# Altium schematic symbol library ebf_mp157 s1 dev board_20210223_原理图封装_AD格式.SCHLIB: 154 symbols (part 1 of 2)
Pins are listed as number, name and electrical type; pins without a type are passive.

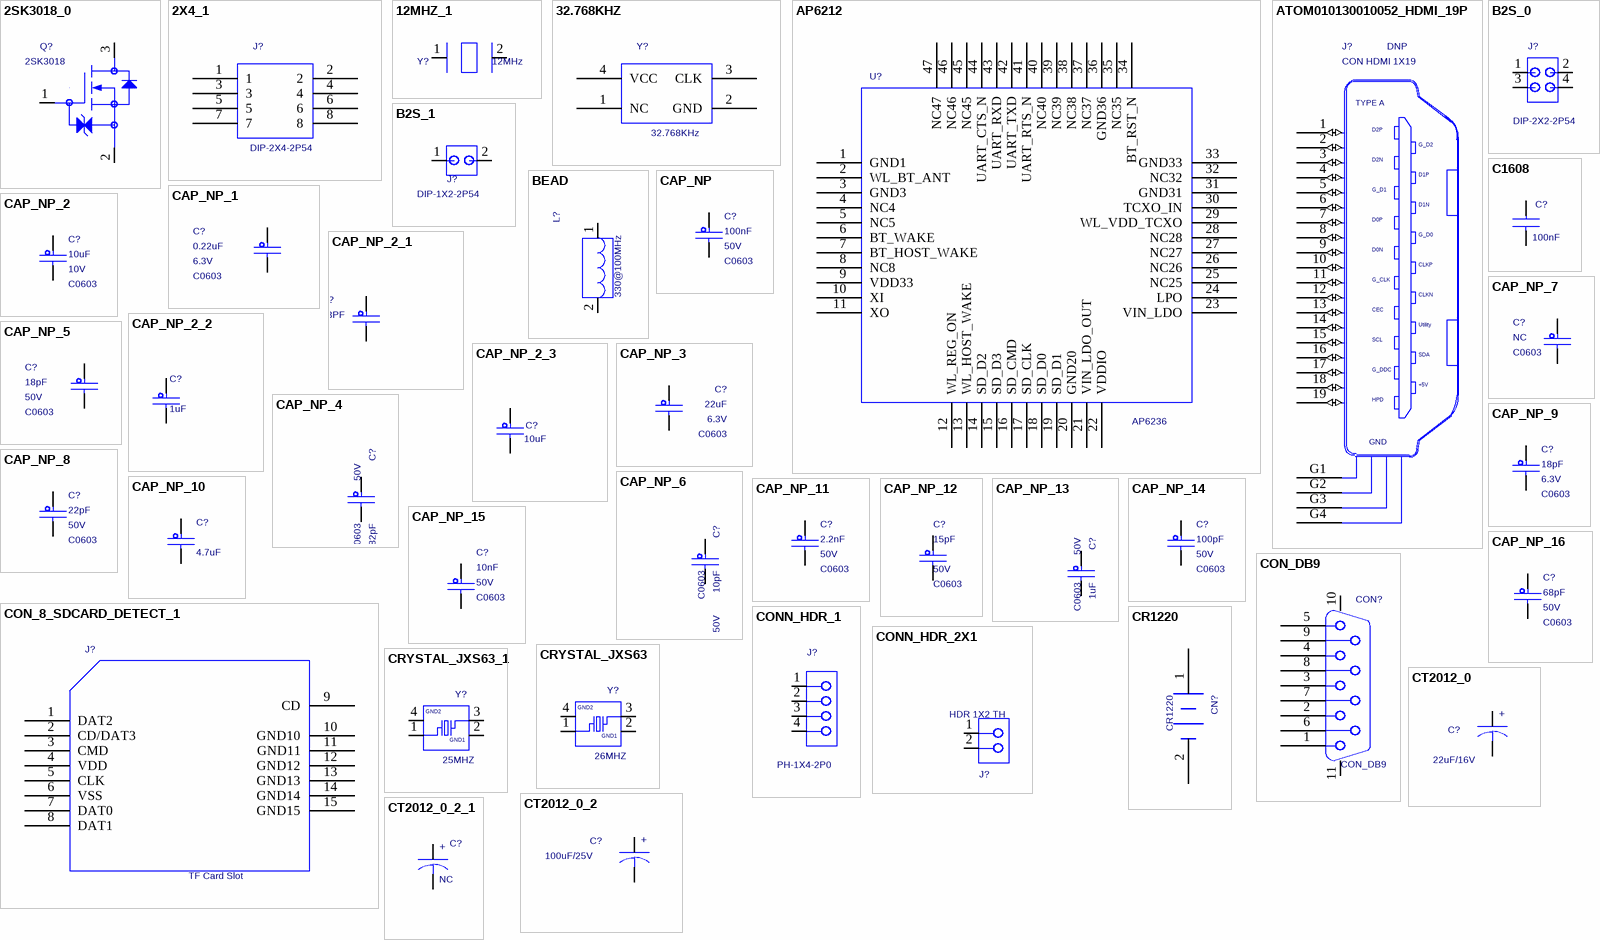
[diagram p0: symbols 2SK3018_0 to CT2012_0_2_1]

## 2SK3018_0
designator Q?  value 2SK3018  (hidden comment: 2SK3018_0)
TRANS MOSFET N-CH 30V .1A SOT-323; PCB DECAL: SOT23; AGILE_PN: 480-75317; MFG_NAME01: ROHM; MFG_PN01: 2SK3018T106; CAD_APPROVED: Yes; Source_Path: H:\NXP_RT1050\SCH\CORE_SCH\IMXRT1052_180113.DSN; CLASS: IC; ROHS: Yes; HEIGHT: 0.9MM
footprint SOT23
pins: 1 GATE, 2 SOURCE, 3 DRAIN

## 2X4_1
designator J?  value DIP-2X4-2P54  (hidden comment: 2X4_1)
Source_Path: D:\NXP_RT1050\RT1050_MB_PRO\SCH\IMXRT1052_MB_PRO_0321.DSN; PCB DECAL: DIP-2X4-2P54
footprint DIP-2X4-2P54
pins: 1, 2, 3, 4, 5, 6, 7, 8

## 12MHZ_1
designator Y?  value 12MHz  (hidden comment: 12MHZ_1)
PCB DECAL: XTAL-DIP; Source_Path: H:\NXP_RT1050\SCH\IMXRT1052_MB.DSN
footprint XTAL-DIP
pins: 1, 2

## 32.768KHZ
designator Y?
PCB DECAL: 3225; Source_Path: F:\NXP\I.MX6UL\SCH\IMX6UL.OLB; Value: 32.768KHz
footprint 3225
pins: 1 NC, 2 GND, 3 CLK, 4 VCC

## AP6212
designator U?  value AP6236  (hidden comment: AP6212)
Source_Path: F:\NXP\I.MX6UL\SCH\IMX6UL.OLB; PCB DECAL: AP6212
footprint AP6212
pins: 1 GND1, 2 WL_BT_ANT, 3 GND3, 4 NC4, 5 NC5, 6 BT_WAKE, 7 BT_HOST_WAKE, 8 NC8, 9 VDD33, 10 XI, 11 XO, 12 WL_REG_ON, 13 WL_HOST_WAKE, 14 SD_D2, 15 SD_D3, 16 SD_CMD, 17 SD_CLK, 18 SD_D0, 19 SD_D1, 20 GND20, 21 VIN_LDO_OUT, 22 VDDIO, 23 VIN_LDO, 24 LPO, 25 NC25, 26 NC26, 27 NC27, 28 NC28, 29 WL_VDD_TCXO, 30 TCXO_IN, 31 GND31, 32 NC32, 33 GND33, 34 BT_RST_N, 35 NC35, 36 GND36, 37 NC37, 38 NC38, 39 NC39, 40 NC40, 41 UART_RTS_N, 42 UART_TXD, 43 UART_RXD, 44 UART_CTS_N, 45 NC45, 46 NC46, 47 NC47

## ATOM010130010052_HDMI_19P
designator J?  value CON HDMI 1X19  ASSY_OPT: DNP  (hidden comment: ATOM010130010052_HDMI_19P)
CON 1X19 HDMI SMT 0.5MM 249H AU --; PCB DECAL: CON_RA_HDMI_19P_0P5_SM; AGILE_PN: 211-79674; MFG_NAME01: SHENZHEN ATOM TECHNOLOGY CO.,LTD; MFG_PN01: HD119F-3A04202; CAD_APPROVED: Yes; Source_Path: Q:\ORCADCIS\SYMBOLS\FCL_CONNECTOR.OLB; VPN: 1166-2C105-211; Vendor: Comtek; OriginalSymbolOrigin: (-200,650); CLASS: IO; ROHS: Yes; HEIGHT: 6.33MM
footprint CON_RA_HDMI_19P_0P5_SM
pins: 1 D2+ (io), 2 D2GND (io), 3 D2- (io), 4 D1+ (io), 5 D1GND (io), 6 D1- (io), 7 D0+ (io), 8 D0GND (io), 9 D0- (io), 10 CK+ (io), 11 CKGND (io), 12 CK- (io), 13 CEC (io), 14 UTILITY (io), 15 SCL (io), 16 SDA (io), 17 DDCGND (io), 18 +5V (io), 19 HPD (io), G1 GND1 (power), G2 GND2 (power), G3 GND3 (power), G4 GND4 (power)
text: TYPE A; D2P; G_D2; D2N; D1P; G_D1; D1N; D0P; G_D0; D0N; CLKP; G_CLK; CLKN; Utility; G_DDC; GND

## B2S_0
designator J?  value DIP-2X2-2P54  (hidden comment: B2S_0)
Source_Path: E:\20200901_FPGA_A7\DEV\VERSION7\EBF_XC7A35T B1 DEV BOARD_20201024001.DSN; PCB DECAL: DIP-2X2-2P54
footprint DIP-2X2-2P54
pins: 1, 2, 3, 4

## B2S_1
designator J?  value DIP-1X2-2P54  (hidden comment: B2S_1)
PCB DECAL: HDR102; Source_Path: F:\STM32\F429\SCH\V4\STM32F429_F767_H743_MB_1129.DSN
footprint HDR102
pins: 1, 2

## BEAD
designator L?  value 330@100MHz  (hidden comment: BEAD)
IND FER BEAD 330OHM@100MHZ 1.7A 0603; PART_TYPE: FERRITE\BEAD; PCB DECAL: L0603; TOL: 25%; CAD_APPROVED: Yes; MFG_PN01: MPZ1608S331A; MFG_NAME01: TDK; AGILE_PN: 180-78156; Source_Path: Q:\ORCADCIS\SYMBOLS\FCL_INDUCTOR.OLB; CLASS: DISCRETE; HEIGHT: 0.95MM; ROHS: Yes; Tolerance: 25%
footprint L0603
pins: 1, 2

## C1608
designator C?  value 100nF  (hidden comment: C1608)
PCB DECAL: C0603; Source_Path: D:\SOPGODS_VIEW_AP\MOBILE_AP_APPLICATION\LIBRARY\ORCAD\DEVICE.OLB
footprint C0603
pins: 1, 2

## CAP_NP
designator C?  value 100nF  voltage_rating: 50V  PCB DECAL: C0603  (hidden comment: CAP_NP)
CAP CER 22UF 6.3V 20% X5R 0603; AGILE_PN: 150-78467; MFG_NAME01: Samsung; MFG_PN01: CL10A226MQ8NRNE; CAD_APPROVED: Yes; FPLIST: CC0603_OV,CC0603,0603_CC; Source_Path: Q:\ORCADCIS\SYMBOLS\FCL_CAPACITOR.OLB; CLASS: DISCRETE; Tolerance: 20%; ROHS: Yes; HEIGHT: 1MM; VOLTAGE: 6.3V
footprint C0603
pins: 1, 2

## CAP_NP_1
designator C?, comment value 0.22uF  VOLTAGE: 6.3V  PCB DECAL: C0603  (hidden comment: CAP_NP)
CAP CER 0.22UF 6.3V 20% X5R 0402; AGILE_PN: 150-76271; MFG_NAME01: KEMET; MFG_PN01: C0402C224M9PAC; CAD_APPROVED: Yes; FPLIST: CC0402_25,CC0402_HD,0402_CC; Source_Path: Q:\ORCADCIS\SYMBOLS\FCL_CAPACITOR.OLB; CLASS: DISCRETE; Tolerance: 20%; ROHS: Yes; HEIGHT: 0.55MM
footprint C0603
pins: 1, 2

## CAP_NP_2
designator C?, comment value 10uF  PCB DECAL: C0603  voltage_rating: 10V  (hidden comment: CAP_NP)
CAP CER 22UF 6.3V 20% X5R 0603; FPLIST: CC0603_OV,CC0603,0603_CC; CAD_APPROVED: Yes; MFG_PN01: CL10A226MQ8NRNE; MFG_NAME01: Samsung; AGILE_PN: 150-78467; Source_Path: Q:\ORCADCIS\SYMBOLS\FCL_CAPACITOR.OLB; CLASS: DISCRETE; VOLTAGE: 6.3V; HEIGHT: 1MM; ROHS: Yes; Tolerance: 20%
footprint C0603
pins: 1, 2

## CAP_NP_2_1
designator C?, comment value 33PF  (hidden comment: CAP_NP_2)
PCB DECAL: C0603; Source_Path: E:\野火-CADENCE 封装库\野火_SCH封装库.OLB; CLASS: DISCRETE
footprint C0603
pins: 1, 2

## CAP_NP_2_2
designator C?, comment value 1uF  (hidden comment: CAP_NP_2)
PCB DECAL: C0603; Source_Path: E:\野火-CADENCE 封装库\野火_SCH封装库.OLB; CLASS: DISCRETE
footprint C0603
pins: 1, 2

## CAP_NP_2_3
designator C?, comment value 10uF  (hidden comment: CAP_NP_2)
PCB DECAL: C0603; Source_Path: E:\野火-CADENCE 封装库\野火_SCH封装库.OLB; CLASS: DISCRETE
footprint C0603
pins: 1, 2

## CAP_NP_3
designator C?, comment value 22uF  voltage_rating: 6.3V  PCB DECAL: C0603  (hidden comment: CAP_NP)
CAP CER 22UF 6.3V 20% X5R 0603; FPLIST: CC0603_OV,CC0603,0603_CC; CAD_APPROVED: Yes; MFG_PN01: CL10A226MQ8NRNE; MFG_NAME01: Samsung; AGILE_PN: 150-78467; Source_Path: Q:\ORCADCIS\SYMBOLS\FCL_CAPACITOR.OLB; CLASS: DISCRETE; VOLTAGE: 6.3V; HEIGHT: 1MM; ROHS: Yes; Tolerance: 20%
footprint C0603
pins: 1, 2

## CAP_NP_4
designator C?, comment value 82pF  voltage_rating: 50V  PCB DECAL: C0603  (hidden comment: CAP_NP)
CAP CER 22UF 6.3V 20% X5R 0603; FPLIST: CC0603_OV,CC0603,0603_CC; CAD_APPROVED: Yes; MFG_PN01: CL10A226MQ8NRNE; MFG_NAME01: Samsung; AGILE_PN: 150-78467; Source_Path: Q:\ORCADCIS\SYMBOLS\FCL_CAPACITOR.OLB; CLASS: DISCRETE; VOLTAGE: 6.3V; HEIGHT: 1MM; ROHS: Yes; Tolerance: 20%
footprint C0603
pins: 1, 2

## CAP_NP_5
designator C?, comment value 18pF  voltage_rating: 50V  PCB DECAL: C0603  (hidden comment: CAP_NP)
CAP CER 22UF 6.3V 20% X5R 0603; AGILE_PN: 150-78467; MFG_NAME01: Samsung; MFG_PN01: CL10A226MQ8NRNE; CAD_APPROVED: Yes; FPLIST: CC0603_OV,CC0603,0603_CC; Source_Path: Q:\ORCADCIS\SYMBOLS\FCL_CAPACITOR.OLB; CLASS: DISCRETE; Tolerance: 20%; ROHS: Yes; HEIGHT: 1MM; VOLTAGE: 6.3V
footprint C0603
pins: 1, 2

## CAP_NP_6
designator C?, comment value 10pF  voltage_rating: 50V  PCB DECAL: C0603  (hidden comment: CAP_NP)
CAP CER 22UF 6.3V 20% X5R 0603; FPLIST: CC0603_OV,CC0603,0603_CC; CAD_APPROVED: Yes; MFG_PN01: CL10A226MQ8NRNE; MFG_NAME01: Samsung; AGILE_PN: 150-78467; Source_Path: Q:\ORCADCIS\SYMBOLS\FCL_CAPACITOR.OLB; CLASS: DISCRETE; VOLTAGE: 6.3V; HEIGHT: 1MM; ROHS: Yes; Tolerance: 20%
footprint C0603
pins: 1, 2

## CAP_NP_7
designator C?, comment value NC  PCB DECAL: C0603  (hidden comment: CAP_NP)
CAP CER 22UF 6.3V 20% X5R 0603; voltage_rating: 50V; AGILE_PN: 150-78467; MFG_NAME01: Samsung; MFG_PN01: CL10A226MQ8NRNE; CAD_APPROVED: Yes; FPLIST: CC0603_OV,CC0603,0603_CC; Source_Path: Q:\ORCADCIS\SYMBOLS\FCL_CAPACITOR.OLB; CLASS: DISCRETE; Tolerance: 20%; ROHS: Yes; HEIGHT: 1MM; VOLTAGE: 6.3V
footprint C0603
pins: 1, 2

## CAP_NP_8
designator C?, comment value 22pF  voltage_rating: 50V  PCB DECAL: C0603  (hidden comment: CAP_NP)
CAP CER 22UF 6.3V 20% X5R 0603; AGILE_PN: 150-78467; MFG_NAME01: Samsung; MFG_PN01: CL10A226MQ8NRNE; CAD_APPROVED: Yes; FPLIST: CC0603_OV,CC0603,0603_CC; Source_Path: Q:\ORCADCIS\SYMBOLS\FCL_CAPACITOR.OLB; CLASS: DISCRETE; Tolerance: 20%; ROHS: Yes; HEIGHT: 1MM; VOLTAGE: 6.3V
footprint C0603
pins: 1, 2

## CAP_NP_9
designator C?, comment value 18pF  PCB DECAL: C0603  VOLTAGE: 6.3V  (hidden comment: CAP_NP)
CAP CER 0.22UF 6.3V 20% X5R 0402; AGILE_PN: 150-76271; MFG_NAME01: KEMET; MFG_PN01: C0402C224M9PAC; CAD_APPROVED: Yes; FPLIST: CC0402_25,CC0402_HD,0402_CC; Source_Path: Q:\ORCADCIS\SYMBOLS\FCL_CAPACITOR.OLB; CLASS: DISCRETE; Tolerance: 20%; ROHS: Yes; HEIGHT: 0.55MM
footprint C0603
pins: 1, 2

## CAP_NP_10
designator C?, comment value 4.7uF  (hidden comment: CAP_NP)
CAP CER 22UF 6.3V 20% X5R 0603; PCB DECAL: C0603; FPLIST: CC0603_OV,CC0603,0603_CC; CAD_APPROVED: Yes; MFG_PN01: CL10A226MQ8NRNE; MFG_NAME01: Samsung; AGILE_PN: 150-78467; voltage_rating: 10V; Source_Path: Q:\ORCADCIS\SYMBOLS\FCL_CAPACITOR.OLB; CLASS: DISCRETE; VOLTAGE: 6.3V; HEIGHT: 1MM; ROHS: Yes; Tolerance: 20%
footprint C0603
pins: 1, 2

## CAP_NP_11
designator C?, comment value 2.2nF  PCB DECAL: C0603  voltage_rating: 50V  (hidden comment: CAP_NP)
CAP CER 22UF 6.3V 20% X5R 0603; FPLIST: CC0603_OV,CC0603,0603_CC; CAD_APPROVED: Yes; MFG_PN01: CL10A226MQ8NRNE; MFG_NAME01: Samsung; AGILE_PN: 150-78467; Source_Path: Q:\ORCADCIS\SYMBOLS\FCL_CAPACITOR.OLB; CLASS: DISCRETE; VOLTAGE: 6.3V; HEIGHT: 1MM; ROHS: Yes; Tolerance: 20%
footprint C0603
pins: 1, 2

## CAP_NP_12
designator C?, comment value 15pF  voltage_rating: 50V  PCB DECAL: C0603  (hidden comment: CAP_NP)
CAP CER 22UF 6.3V 20% X5R 0603; FPLIST: CC0603_OV,CC0603,0603_CC; CAD_APPROVED: Yes; MFG_PN01: CL10A226MQ8NRNE; MFG_NAME01: Samsung; AGILE_PN: 150-78467; Source_Path: Q:\ORCADCIS\SYMBOLS\FCL_CAPACITOR.OLB; CLASS: DISCRETE; VOLTAGE: 6.3V; HEIGHT: 1MM; ROHS: Yes; Tolerance: 20%
footprint C0603
pins: 1, 2

## CAP_NP_13
designator C?, comment value 1uF  PCB DECAL: C0603  voltage_rating: 50V  (hidden comment: CAP_NP)
CAP CER 22UF 6.3V 20% X5R 0603; FPLIST: CC0603_OV,CC0603,0603_CC; CAD_APPROVED: Yes; MFG_PN01: CL10A226MQ8NRNE; MFG_NAME01: Samsung; AGILE_PN: 150-78467; Source_Path: Q:\ORCADCIS\SYMBOLS\FCL_CAPACITOR.OLB; CLASS: DISCRETE; VOLTAGE: 6.3V; HEIGHT: 1MM; ROHS: Yes; Tolerance: 20%
footprint C0603
pins: 1, 2

## CAP_NP_14
designator C?, comment value 100pF  voltage_rating: 50V  PCB DECAL: C0603  (hidden comment: CAP_NP)
CAP CER 22UF 6.3V 20% X5R 0603; AGILE_PN: 150-78467; MFG_NAME01: Samsung; MFG_PN01: CL10A226MQ8NRNE; CAD_APPROVED: Yes; FPLIST: CC0603_OV,CC0603,0603_CC; Source_Path: Q:\ORCADCIS\SYMBOLS\FCL_CAPACITOR.OLB; CLASS: DISCRETE; Tolerance: 20%; ROHS: Yes; HEIGHT: 1MM; VOLTAGE: 6.3V
footprint C0603
pins: 1, 2

## CAP_NP_15
designator C?, comment value 10nF  voltage_rating: 50V  PCB DECAL: C0603  (hidden comment: CAP_NP)
CAP CER 22UF 6.3V 20% X5R 0603; AGILE_PN: 150-78467; MFG_NAME01: Samsung; MFG_PN01: CL10A226MQ8NRNE; CAD_APPROVED: Yes; FPLIST: CC0603_OV,CC0603,0603_CC; Source_Path: Q:\ORCADCIS\SYMBOLS\FCL_CAPACITOR.OLB; CLASS: DISCRETE; Tolerance: 20%; ROHS: Yes; HEIGHT: 1MM; VOLTAGE: 6.3V
footprint C0603
pins: 1, 2

## CAP_NP_16
designator C?, comment value 68pF  voltage_rating: 50V  PCB DECAL: C0603  (hidden comment: CAP_NP)
CAP CER 22UF 6.3V 20% X5R 0603; FPLIST: CC0603_OV,CC0603,0603_CC; CAD_APPROVED: Yes; MFG_PN01: CL10A226MQ8NRNE; MFG_NAME01: Samsung; AGILE_PN: 150-78467; Source_Path: Q:\ORCADCIS\SYMBOLS\FCL_CAPACITOR.OLB; CLASS: DISCRETE; VOLTAGE: 6.3V; HEIGHT: 1MM; ROHS: Yes; Tolerance: 20%
footprint C0603
pins: 1, 2

## CON_8_SDCARD_DETECT_1
designator J?  value TF Card Slot  (hidden comment: CON_8_SDCARD_DETECT_1)
CON 8 SKT SD/MMC PUSH-PUSH RA SMT 1.1MM SP 83H AU; AGILE_PN: 211-80105; MFG_NAME01: ANYTRONIC CORPORATION LIMITED; MFG_PN01: 95060030-14RRF; CAD_APPROVED: Yes; PCB DECAL: TFCARD; Source_Path: H:\NXP_RT1050\SCH\IMXRT1052_MB.DSN; CLASS: IO; ROHS: Yes; HEIGHT: 2.1 MM
footprint TFCARD
pins: 1 DAT2, 2 CD/DAT3, 3 CMD, 4 VDD (power), 5 CLK, 6 VSS (power), 7 DAT0, 8 DAT1, 9 CD, 10 GND10, 11 GND11, 12 GND12, 13 GND13, 14 GND14, 15 GND15

## CON_DB9
designator CON?
PCB DECAL: DB9-M; Source_Path: E:\WORK\LIB\ORCAD_SCH\MYLIB_10120926.OLB; Value: CON_DB9
footprint DB9-M
pins: 1, 2, 3, 4, 5, 6, 7, 8, 9, 10, 11

## CONN_HDR_1
designator J?  value PH-1X4-2P0  (hidden comment: CONN_HDR_1)
HDR 1X2 TH 100MIL SP 339H AU 98L; CAD_APPROVED: YES; ASSY_OPT: DNP; MFG_PN01: TSW-102-07-G-S; MFG_NAME01: SAMTEC; AGILE_PN: 210-75439; Source_Path: D:\NXP_RT1050\RT1050_MB_PRO\SCH\IMXRT1052_MB_PRO_0417_3.DSN; CLASS: IO; HEIGHT: 8.71 MM; ROHS: Yes; PCB DECAL: PH-1X4-2P0
footprint PH-1X4-2P0
pins: 1, 2, 3, 4

## CONN_HDR_2X1
designator J?  value HDR 1X2 TH  (hidden comment: CONN_HDR_2X1)
HDR 1X2 TH 100MIL SP 339H AU 98L; CAD_APPROVED: YES; MFG_PN01: TSW-102-07-G-S; MFG_NAME01: SAMTEC; AGILE_PN: 210-75439; PCB DECAL: CON_2PIN; Source_Path: Q:\ORCADCIS\SYMBOLS\FCL_CONNECTOR.OLB; CLASS: IO; HEIGHT: 8.71 MM; ROHS: Yes
footprint CON_2PIN
pins: 1, 2

## CR1220
designator CN?
Source_Path: H:\NXP_RT1050\SCH\SCHLIB\YHSCHLIB.OLB; PCB DECAL: CR1220; Value: CR1220
footprint CR1220
pins: 1 BAT, 2 GND

## CRYSTAL_JXS63
designator Y?  value 26MHZ  (hidden comment: CRYSTAL_JXS63)
XTAL 24MHZ -- 30PPM 3.2X2.5MM SMD; CAD_APPROVED: Yes; MFG_PN01: 7V24000002; MFG_NAME01: TXC CORP; AGILE_PN: 230-77452; PCB DECAL: 3225; Source_Path: Q:\ORCADCIS\SYMBOLS\FCL_XTAL_OSC.OLB; CLASS: IC; HEIGHT: 0.9MM; ROHS: Yes
footprint 3225
pins: 1, 2 GND1 (power), 3, 4 GND2 (power)

## CRYSTAL_JXS63_1
designator Y?, comment value 25MHZ  (hidden comment: CRYSTAL_JXS63)
XTAL 24MHZ -- 30PPM 3.2X2.5MM SMD; PCB DECAL: 3225; AGILE_PN: 230-77452; MFG_NAME01: TXC CORP; MFG_PN01: 7V24000002; CAD_APPROVED: Yes; Source_Path: Q:\ORCADCIS\SYMBOLS\FCL_XTAL_OSC.OLB; CLASS: IC; ROHS: Yes; HEIGHT: 0.9MM
footprint 3225
pins: 1, 2 GND1 (power), 3, 4 GND2 (power)

## CT2012_0
designator C?  value 22uF/16V  (hidden comment: CT2012_0)
PCB DECAL: CASE-B_3528; Source_Path: E:\野火-CADENCE 封装库\野火_SCH封装库.OLB
footprint CASE-B_3528
pins: 1, 2
text: +

## CT2012_0_2
designator C?  value 100uF/25V  (hidden comment: CT2012_0_2)
PCB DECAL: EC6P3; Source_Path: D:\01_LSI_PROJECT\C100\00.SMDK俺惯\SCHEMATICS\C100\C100_CPU.OLB
footprint EC6P3
pins: 1, 2
text: +

## CT2012_0_2_1
designator C?, comment value NC  (hidden comment: CT2012_0_2)
PCB DECAL: CAP100; Source_Path: D:\01_LSI_PROJECT\C100\00.SMDK俺惯\SCHEMATICS\C100\C100_CPU.OLB
footprint CAP100
pins: 1, 2
text: +

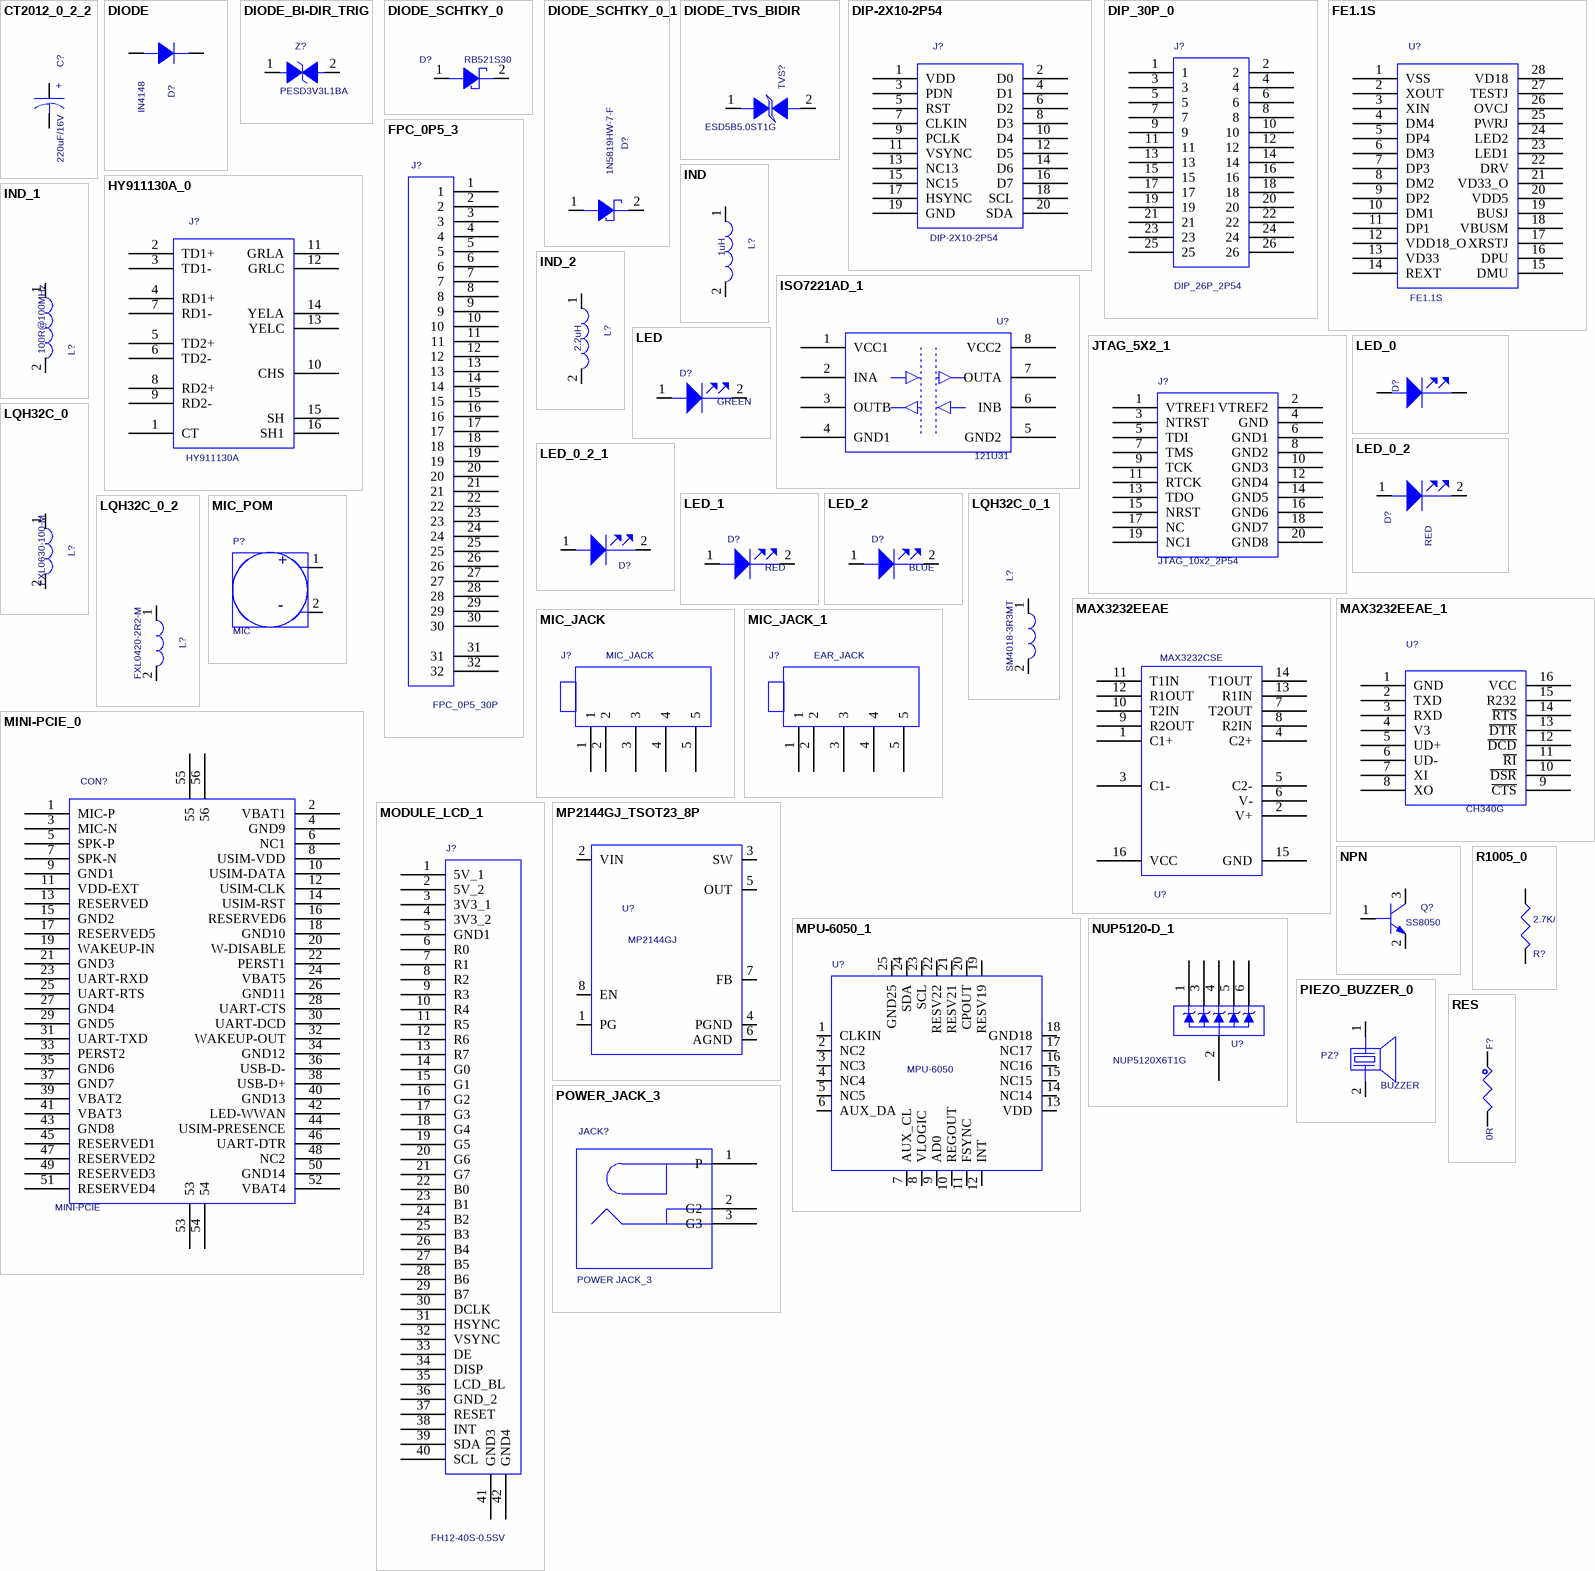
[diagram p1: symbols CT2012_0_2_2 to RES]

## CT2012_0_2_2
designator C?, comment value 220uF/16V  (hidden comment: CT2012_0_2)
PCB DECAL: EC6P3; Source_Path: D:\01_LSI_PROJECT\C100\00.SMDK俺惯\SCHEMATICS\C100\C100_CPU.OLB
footprint EC6P3
pins: 1, 2
text: +

## DIODE
designator D?  value IN4148  (hidden comment: DIODE)
PCB DECAL: SOD_123; Source_Path: C:\CADENCE\SPB_16.2\TOOLS\CAPTURE\LIBRARY\DISCRETE.OLB
footprint SOD_123
pins: 1 A, 2 K

## DIODE_BI-DIR_TRIG
designator Z?  value PESD3V3L1BA  (hidden comment: DIODE_BI-DIR_TRIG)
Assembly: NC; ROOM: B-VGA_IN; PCB DECAL: SOD323; Source_Path: D:\PCB_DATA\ORCAD_LIB\LRY2.OLB; Package: D0603
footprint SOD323
pins: 1, 2

## DIODE_SCHTKY_0
designator D?  value RB521S30  (hidden comment: DIODE_SCHTKY_0)
DIODE SCH RECT 200MA 30V AEC-Q101 SOD-523; AGILE_PN: 480-79672; MFG_NAME01: NEXPERIA; MFG_PN01: RB521S30,115; CAD_APPROVED: Yes; PCB DECAL: SOD523; Source_Path: H:\NXP_RT1050\SCH\IMXRT1052_CORE\CORE\IMXRT1052_1207.DSN; CLASS: IC; ROHS: Yes; HEIGHT: 0.65MM
footprint SOD523
pins: 1, 2

## DIODE_SCHTKY_0_1
designator D?, comment value 1N5819HW-7-F  (hidden comment: DIODE_SCHTKY_0)
DIODE SCH RECT 200MA 30V AEC-Q101 SOD-523; PCB DECAL: SOD123; CAD_APPROVED: Yes; MFG_PN01: RB521S30,115; MFG_NAME01: NEXPERIA; AGILE_PN: 480-79672; Source_Path: H:\NXP_RT1050\SCH\IMXRT1052_CORE\CORE\IMXRT1052_1207.DSN; CLASS: IC; HEIGHT: 0.65MM; ROHS: Yes
footprint SOD123
pins: 1, 2

## DIODE_TVS_BIDIR
designator TVS?  value ESD5B5.0ST1G  (hidden comment: DIODE_TVS_BIDIR)
DIODE SUPPRESSOR 16A@30NS 5V@1UA SOD-523; PCB DECAL: SOD523; CAD_APPROVED: Yes; ASSY_OPT: DNP; MFG_NAME01: on semiconductor; AGILE_PN: 480-76937; Source_Path: Q:\ORCADCIS\SYMBOLS\FCL_SEMICONDUCTOR.OLB; CLASS: IC; HEIGHT: 0.7MM; ROHS: Yes; MFG_PN01: ESD5B5.0ST1G
footprint SOD523
pins: 1 A1, 2 A2

## DIP-2X10-2P54
designator J?
Source_Path: H:\NXP_RT1050\SCH\SCHLIB\YHSCHLIB.OLB; PCB DECAL: DIP-2X10-2P54; Value: DIP-2X10-2P54
footprint DIP-2X10-2P54
pins: 1 VDD, 2 D0, 3 PDN, 4 D1, 5 RST, 6 D2, 7 CLKIN, 8 D3, 9 PCLK, 10 D4, 11 VSYNC, 12 D5, 13 NC13, 14 D6, 15 NC15, 16 D7, 17 HSYNC, 18 SCL, 19 GND, 20 SDA

## DIP_30P_0
designator J?  value DIP_26P_2P54  (hidden comment: DIP_30P_0)
PCB DECAL: DIP-2X13_2P54; Source_Path: E:\20200723_MP157_S\DEV\VERSION2\EBF_MP157 DEV BOARD S1_20200918.DSN
footprint DIP-2X13_2P54
pins: 1, 2, 3, 4, 5, 6, 7, 8, 9, 10, 11, 12, 13, 14, 15, 16, 17, 18, 19, 20, 21, 22, 23, 24, 25, 26

## FE1.1S
designator U?
PCB DECAL: SSOP-28; Source_Path: G:\开发板代码\郭老师资料\IMX6资料\原理图\SABRESDB_DESIGNFILES\DEVELOP\LIBRARY1.OLB; Value: FE1.1S
footprint SSOP-28
pins: 1 VSS, 2 XOUT, 3 XIN, 4 DM4, 5 DP4, 6 DM3, 7 DP3, 8 DM2, 9 DP2, 10 DM1, 11 DP1, 12 VDD18_O, 13 VD33, 14 REXT, 15 DMU, 16 DPU, 17 XRSTJ, 18 VBUSM, 19 BUSJ, 20 VDD5, 21 VD33_O, 22 DRV, 23 LED1, 24 LED2, 25 PWRJ, 26 OVCJ, 27 TESTJ, 28 VD18

## FPC_0P5_3
designator J?  value FPC_0P5_30P  (hidden comment: FPC_0P5_3)
PCB DECAL: FPC-30S-0P5SV; Source_Path: E:\20200820_5P5INC_DSI\VERSION2\SCH\EBF_5P5 INCH DSI LCD MODULE_20200824.DSN
footprint FPC-30S-0P5SV
pins: 1, 2, 3, 4, 5, 6, 7, 8, 9, 10, 11, 12, 13, 14, 15, 16, 17, 18, 19, 20, 21, 22, 23, 24, 25, 26, 27, 28, 29, 30, 31, 32

## HY911130A_0
designator J?  value HY911130A  (hidden comment: HY911130A_0)
Source_Path: E:\Z\野火_MP157_核心板_底板_硬件资料\EBF157_B1_PRO_002\EBF157_B1_PRO_001.DSN; PCB DECAL: HY911130A
footprint HY911130A
pins: 1 CT, 2 TD1+, 3 TD1-, 4 RD1+, 5 TD2+, 6 TD2-, 7 RD1-, 8 RD2+, 9 RD2-, 10 CHS, 11 GRLA, 12 GRLC, 13 YELC, 14 YELA, 15 SH, 16 SH1

## IND
designator L?  value 1uH  (hidden comment: IND)
IND PWR 1UH@100KHZ 2.6A 30% SMT; PART_TYPE: INDUCTOR\POWER; AGILE_PN: 180-77797; MFG_NAME01: Shenzhen Sunlord Electronics Co., Ltd; MFG_PN01: SWPA4020S1R0NT; CAD_APPROVED: Yes; PCB DECAL: L4018; Source_Path: Q:\ORCADCIS\SYMBOLS\FCL_INDUCTOR.OLB; CLASS: DISCRETE; Tolerance: 30%; TOL: 30%; ROHS: Yes; HEIGHT: 2.2MM
footprint L4018
pins: 1, 2

## IND_1
designator L?, comment value 100R@100MHz  (hidden comment: IND)
IND PWR 1UH@100KHZ 2.6A 30% SMT; PART_TYPE: INDUCTOR\POWER; PCB DECAL: L0603; AGILE_PN: 180-77797; MFG_NAME01: Shenzhen Sunlord Electronics Co., Ltd; MFG_PN01: SWPA4020S1R0NT; CAD_APPROVED: Yes; Source_Path: Q:\ORCADCIS\SYMBOLS\FCL_INDUCTOR.OLB; CLASS: DISCRETE; Tolerance: 30%; TOL: 30%; ROHS: Yes; HEIGHT: 2.2MM
footprint L0603
pins: 1, 2

## IND_2
designator L?, comment value 2.2uH  (hidden comment: IND)
IND PWR 1UH@100KHZ 2.6A 30% SMT; PART_TYPE: INDUCTOR\POWER; PCB DECAL: L4018; AGILE_PN: 180-77797; MFG_NAME01: Shenzhen Sunlord Electronics Co., Ltd; MFG_PN01: SWPA4020S1R0NT; CAD_APPROVED: Yes; Source_Path: Q:\ORCADCIS\SYMBOLS\FCL_INDUCTOR.OLB; CLASS: DISCRETE; Tolerance: 30%; TOL: 30%; ROHS: Yes; HEIGHT: 2.2MM
footprint L4018
pins: 1, 2

## ISO7221AD_1
designator U?  value 121U31  (hidden comment: ISO7221AD_1)
Dual Digital Isolators, Opposite directions, 1 Mbps, -40℃ to +125℃; Mfr: TI; Mfr_Part_Number: ISO7221ADR; Part_Number: IC100205-01; Partname: 贴片IC; Gtech_Number: 60101IS7221ADR001; Remarks: Checked; Spec: ISO7221ADR SOIC8(TI); PCB DECAL: SOIC_8; Source_Path: E:\20200507_CH340串口模块\VERSION4\EBF_USB TO SERIAL PORT_20201207.DSN; Availability: 0
footprint SOIC_8
pins: 1 VCC1 (power), 2 INA, 3 OUTB, 4 GND1 (power), 5 GND2 (power), 6 INB, 7 OUTA, 8 VCC2 (power)

## JTAG_5X2_1
designator J?  value JTAG_10x2_2P54  (hidden comment: JTAG_5X2_1)
PCB DECAL: JTAG_2X10PIN_2P54; Source_Path: E:\Z\野火_MP157_核心板_底板_硬件资料\EBF157_B1_PRO_002\EBF157_B1_PRO_001.DSN
footprint JTAG_2X10PIN_2P54
pins: 1 VTREF1, 2 VTREF2, 3 NTRST, 4 GND, 5 TDI, 6 GND1, 7 TMS, 8 GND2, 9 TCK, 10 GND3, 11 RTCK, 12 GND4, 13 TDO, 14 GND5, 15 NRST, 16 GND6, 17 NC, 18 GND7, 19 NC1, 20 GND8

## LED
designator D?  value GREEN  (hidden comment: LED)
PCB DECAL: LED0603; Source_Path: E:\Z\野火_MP157_核心板_底板_硬件资料\EBF157_B1_002\MYLIB\MYLIBRARY.OLB; CLASS: IC
footprint LED0603
pins: 1 ANODE, 2 CATHODE

## LED_0
designator D?  (value not drawn)
LED GRN SGL 25MA 0603; CAD_APPROVED: Yes; MFG_PN01: KPT-1608SGC; MFG_NAME01: KINGBRIGHT; AGILE_PN: 370-76549; PCB DECAL: LED0603; Source_Path: E:\原理图PCB__赵中磊\USB\USB.DSN; Value: RED; CLASS: IC; HEIGHT: 0.85MM; ROHS: Yes
footprint LED0603
pins: 1 ANODE, 2 CATHODE

## LED_0_2
designator D?  value RED  (hidden comment: LED_0_2)
LED GRN SGL 25MA 0603; CAD_APPROVED: Yes; MFG_PN01: KPT-1608SGC; MFG_NAME01: KINGBRIGHT; AGILE_PN: 370-76549; PCB DECAL: LED0603; Source_Path: H:\NXP_RT1050\SCH\IMXRT1052_CORE\CORE\IMXRT1052_1207.DSN; CLASS: IC; HEIGHT: 0.85MM; ROHS: Yes
footprint LED0603
pins: 1 ANODE, 2 CATHODE

## LED_0_2_1
designator D?, comment LED_0_2  (value not drawn)
LED GRN SGL 25MA 0603; AGILE_PN: 370-76549; MFG_NAME01: KINGBRIGHT; MFG_PN01: KPT-1608SGC; CAD_APPROVED: Yes; PCB DECAL: LED0603; Source_Path: H:\NXP_RT1050\SCH\IMXRT1052_CORE\CORE\IMXRT1052_1207.DSN; Value: BLUE; CLASS: IC; ROHS: Yes; HEIGHT: 0.85MM
footprint LED0603
pins: 1 ANODE, 2 CATHODE

## LED_1
designator D?, comment value RED  (hidden comment: LED)
PCB DECAL: LED0603; Source_Path: E:\Z\野火_MP157_核心板_底板_硬件资料\EBF157_B1_002\MYLIB\MYLIBRARY.OLB; CLASS: IC
footprint LED0603
pins: 1 ANODE, 2 CATHODE

## LED_2
designator D?, comment value BLUE  (hidden comment: LED)
PCB DECAL: LED0603; Source_Path: E:\Z\野火_MP157_核心板_底板_硬件资料\EBF157_B1_002\MYLIB\MYLIBRARY.OLB; CLASS: IC
footprint LED0603
pins: 1 ANODE, 2 CATHODE

## LQH32C_0
designator L?  value FXL0630-100-M  (hidden comment: LQH32C_0)
PCB DECAL: L0630; Source_Path: D:\USER\ALLEGRO\2009\APR\SMDK_S5PC110_BASE\CAPTURE\S5PC110_SMDK_BASE_BD_SCHEMATIC_REV0.0.DSN
footprint L0630
pins: 1, 2

## LQH32C_0_1
designator L?, comment value SM4018-3R3MT  (hidden comment: LQH32C_0)
PCB DECAL: L4018; Source_Path: D:\USER\ALLEGRO\2009\APR\SMDK_S5PC110_BASE\CAPTURE\S5PC110_SMDK_BASE_BD_SCHEMATIC_REV0.0.DSN
footprint L4018
pins: 1, 2

## LQH32C_0_2
designator L?, comment value FXL0420-2R2-M  (hidden comment: LQH32C_0)
PCB DECAL: L0420; Source_Path: D:\USER\ALLEGRO\2009\APR\SMDK_S5PC110_BASE\CAPTURE\S5PC110_SMDK_BASE_BD_SCHEMATIC_REV0.0.DSN
footprint L0420
pins: 1, 2

## MAX3232EEAE
designator U?  value MAX3232CSE  (hidden comment: MAX3232EEAE)
PCB DECAL: SOIC16; Source_Path: E:\WORKS\PCB_DESIGN\CADENCE\LIB\PACKAGE_LIB\PACKAGE.OLB
footprint SOIC16
pins: 1 C1+, 2 V+, 3 C1-, 4 C2+, 5 C2-, 6 V-, 7 T2OUT, 8 R2IN, 9 R2OUT, 10 T2IN, 11 T1IN, 12 R1OUT, 13 R1IN, 14 T1OUT, 15 GND (power), 16 VCC (power)

## MAX3232EEAE_1
designator U?  value CH340G  (hidden comment: MAX3232EEAE_1)
PCB DECAL: SOIC16; Source_Path: H:\NXP_RT1050\SCH\IMXRT1052_MB.DSN
footprint SOIC16
pins: 1 GND, 2 TXD, 3 RXD, 4 V3, 5 UD+, 6 UD-, 7 XI, 8 XO, 9 ~{CTS}, 10 ~{DSR}, 11 ~{RI}, 12 ~{DCD}, 13 ~{DTR}, 14 ~{RTS}, 15 R232, 16 VCC (power)

## MIC_JACK
designator J?
PCB DECAL: EAR_JACK; Source_Path: H:\NXP_RT1050\SCH\SCHLIB\YHSCHLIB.OLB; Value: MIC_JACK
footprint EAR_JACK
pins: 1, 2, 3, 4, 5

## MIC_JACK_1
designator J?, comment value EAR_JACK  (hidden comment: MIC_JACK)
Source_Path: H:\NXP_RT1050\SCH\SCHLIB\YHSCHLIB.OLB; PCB DECAL: EAR_JACK
footprint EAR_JACK
pins: 1, 2, 3, 4, 5

## MIC_POM
designator P?  value MIC  (hidden comment: MIC_POM)
AUDIO DEVICE MIC 0.5MA 2V 38-48+/-3dB 2.2KOHM 6MM TH; PCB DECAL: MIC_6X2_2; CAD_APPROVED: Yes; MFG_PN01: EM6022P; MFG_NAME01: Soberton Inc; AGILE_PN: 510-77987; Source_Path: Q:\ORCADCIS\SYMBOLS\FCL_MISC.OLB; CLASS: IC; HEIGHT: 2.4MM; ROHS: Yes
footprint MIC_6X2_2
pins: 1 OUT, 2 GND
text: +; -

## MINI-PCIE_0
designator CON?  value MINI-PCIE  (hidden comment: MINI-PCIE_0)
PCB DECAL: PCIE; Source_Path: E:\Z\20200407_MP157\底板\SCH\EBF_MP157 DEV BOARD_20200407.DSN
footprint PCIE
pins: 1 MIC-P, 2 VBAT1, 3 MIC-N, 4 GND9, 5 SPK-P, 6 NC1, 7 SPK-N, 8 USIM-VDD, 9 GND1, 10 USIM-DATA, 11 VDD-EXT, 12 USIM-CLK, 13 RESERVED, 14 USIM-RST, 15 GND2, 16 RESERVED6, 17 RESERVED5, 18 GND10, 19 WAKEUP-IN, 20 W-DISABLE, 21 GND3, 22 PERST1, 23 UART-RXD, 24 VBAT5, 25 UART-RTS, 26 GND11, 27 GND4, 28 UART-CTS, 29 GND5, 30 UART-DCD, 31 UART-TXD, 32 WAKEUP-OUT, 33 PERST2, 34 GND12, 35 GND6, 36 USB-D-, 37 GND7, 38 USB-D+, 39 VBAT2, 40 GND13, 41 VBAT3, 42 LED-WWAN, 43 GND8, 44 USIM-PRESENCE, 45 RESERVED1, 46 UART-DTR, 47 RESERVED2, 48 NC2, 49 RESERVED3, 50 GND14, 51 RESERVED4, 52 VBAT4, 53, 54, 55, 56

## MODULE_LCD_1
designator J?  value FH12-40S-0.5SV  (hidden comment: MODULE_LCD_1)
SUBASSEMBLY CON 1X40 FPC SMT RA + CON 1X6 FPC/FFC RA SKT + TFT DISPLAY 4.3INCH; CAD_APPROVED: Yes; MFG_PN01: 211-79974,211-79976,375-00010; AGILE_PN: 750-77763; PCB DECAL: FPC-40S-0P5SV; Source_Path: F:\SCH-PCB\EBF_L007\SCH\EBF_L007_190919_1.DSN; CLASS: IO; HEIGHT: 6.75MM; ROHS: Yes; MFG_NAME01: SUBASSEMBLY
footprint FPC-40S-0P5SV
pins: 1 5V_1, 2 5V_2, 3 3V3_1, 4 3V3_2, 5 GND1, 6 R0, 7 R1, 8 R2, 9 R3, 10 R4, 11 R5, 12 R6, 13 R7, 14 G0, 15 G1, 16 G2, 17 G3, 18 G4, 19 G5, 20 G6, 21 G7, 22 B0, 23 B1, 24 B2, 25 B3, 26 B4, 27 B5, 28 B6, 29 B7, 30 DCLK, 31 HSYNC, 32 VSYNC, 33 DE, 34 DISP, 35 LCD_BL, 36 GND_2, 37 RESET, 38 INT, 39 SDA, 40 SCL, 41 GND3, 42 GND4

## MP2144GJ_TSOT23_8P
designator U?  value MP2144GJ  (hidden comment: MP2144GJ_TSOT23_8P)
IC SYNC STEP-DOWN SW 1.2MHZ 0.6V 2A 2.5-5.5V TSOT23-8; AGILE_PN: 315-80508; MFG_NAME01: MONOLITHIC POWER SYSTEMS; CAD_APPROVED: Yes; Source_Path: Q:\ORCADCIS\SYMBOLS\FCL_IC2.OLB; PCB DECAL: TSOT23-8; MFG_PN01: MP2144GJ; ROHS: Yes; HEIGHT: 1MM; CLASS: IC
footprint TSOT23-8
pins: 1 PG (oc), 2 VIN (power), 3 SW, 4 PGND (power), 5 OUT, 6 AGND (power), 7 FB, 8 EN

## MPU-6050_1
designator U?  value MPU-6050  (hidden comment: MPU-6050_1)
PCB DECAL: QFN24; Source_Path: H:\NXP_RT1050\SCH\IMXRT1052_MB.DSN
footprint QFN24
pins: 1 CLKIN, 2 NC2, 3 NC3, 4 NC4, 5 NC5, 6 AUX_DA, 7 AUX_CL, 8 VLOGIC, 9 AD0, 10 REGOUT, 11 FSYNC, 12 INT, 13 VDD, 14 NC14, 15 NC15, 16 NC16, 17 NC17, 18 GND18, 19 RESV19, 20 CPOUT, 21 RESV21, 22 RESV22, 23 SCL, 24 SDA, 25 GND25

## NPN
designator Q?  value SS8050  (hidden comment: NPN)
TRAN NPN GEN 0.5A 45V AEC-Q101 SOT23; CAD_APPROVED: Yes; MFG_PN01: BC817,215; MFG_NAME01: NEXPERIA; AGILE_PN: 480-78842; Source_Path: Q:\ORCADCIS\SYMBOLS\FCL_SEMICONDUCTOR.OLB; CLASS: IC; PCB DECAL: SOT23; HEIGHT: 1.1 MM; ROHS: Yes
footprint SOT23
pins: 1 BASE, 2 EMITTER, 3 COLLECTOR

## NUP5120-D_1
designator U?  value NUP5120X6T1G  (hidden comment: NUP5120-D_1)
PCB DECAL: SOT563; Source_Path: E:\Z\20200407_MP157\底板\SCH\EBF_MP157 DEV BOARD_20200407.DSN
footprint SOT563
pins: 1, 2, 3, 4, 5, 6

## PIEZO_BUZZER_0
designator PZ?  value BUZZER  (hidden comment: PIEZO_BUZZER_0)
Source_Path: D:\NXP_RT1050\RT1050_MB_PRO\SCH\IMXRT1052_MB_PRO_0417_4.DSN; PCB DECAL: BUZZER
footprint BUZZER
pins: 1 +, 2 -

## POWER_JACK_3
designator JACK?  value POWER JACK_3  (hidden comment: POWER_JACK_3)
PCB DECAL: JACK-2_5MM_B; Source_Path: E:\WORK\SCH5\X\SCH\DEVELOP_BOARD_V1-5-21.DSN
footprint JACK-2_5MM_B
pins: 1 P, 2 G2, 3 G3

## R1005_0
designator R?  value 2.7K/1%  (hidden comment: R1005_0)
PCB DECAL: R0603; Source_Path: D:\SOPGODS_VIEW_AP\MOBILE_AP_APPLICATION\S3C6410\OUTPUT_DATA\HW\SMDK\INTEGRATION_BOARD\SMDK6410_CPU_BD_SCHEMATICS_REV0.0_EDITING.DSN
footprint R0603
pins: 1, 2

## RES
designator F?  value 0R  (hidden comment: RES)
RES MF 1.0M 1/10W 5% 0402; AGILE_PN: 470-79978; MFG_NAME01: PANASONIC; MFG_PN01: ERJ-2GEJ105X; CAD_APPROVED: Yes; FPLIST: RC0402_25,RC0402_HD,0402_CC; PCB DECAL: F0805; Source_Path: Q:\ORCADCIS\SYMBOLS\FCL_RESISTOR.OLB; CLASS: DISCRETE; HEIGHT: 0.4MM; Tolerance: 5%; ROHS: Yes
footprint F0805
pins: 1, 2

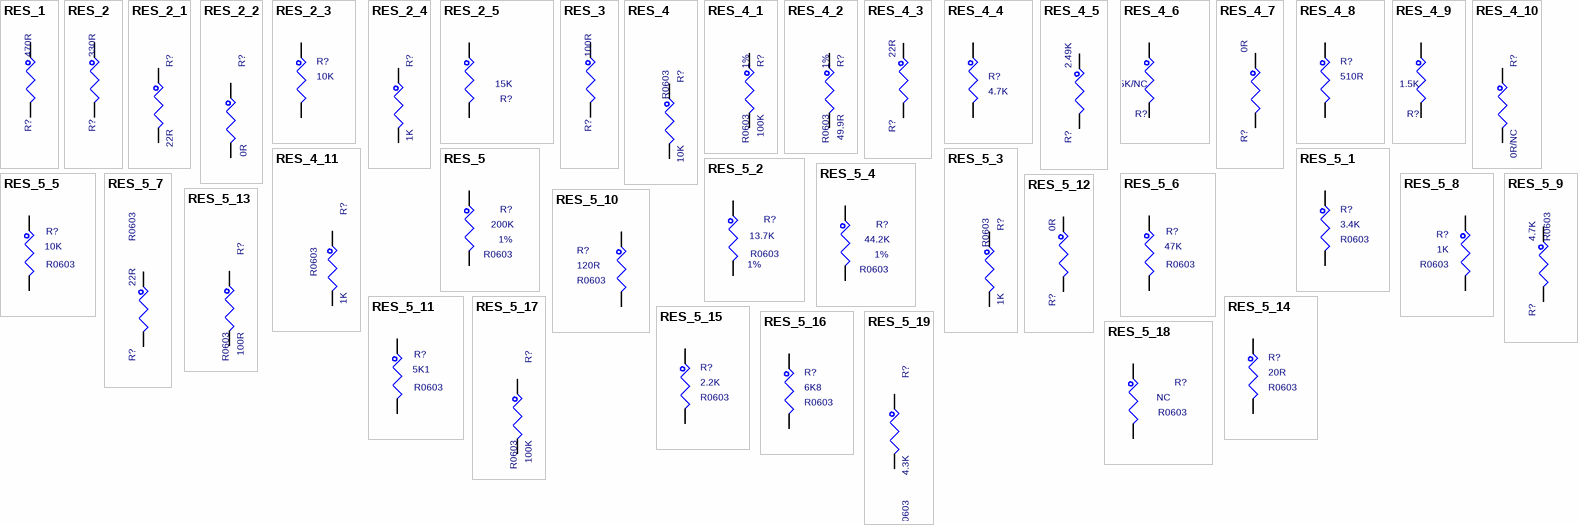
[diagram p2: symbols RES_1 to RES_5_19]

## RES_1
designator R?, comment value 470R  (hidden comment: RES)
RES MF 1.0M 1/10W 5% 0402; AGILE_PN: 470-79978; MFG_NAME01: PANASONIC; MFG_PN01: ERJ-2GEJ105X; CAD_APPROVED: Yes; FPLIST: RC0402_25,RC0402_HD,0402_CC; PCB DECAL: R0603; Source_Path: Q:\ORCADCIS\SYMBOLS\FCL_RESISTOR.OLB; CLASS: DISCRETE; HEIGHT: 0.4MM; Tolerance: 5%; ROHS: Yes
footprint R0603
pins: 1, 2

## RES_2
designator R?, comment value 330R  (hidden comment: RES)
RES MF 1.0M 1/10W 5% 0402; AGILE_PN: 470-79978; MFG_NAME01: PANASONIC; MFG_PN01: ERJ-2GEJ105X; CAD_APPROVED: Yes; FPLIST: RC0402_25,RC0402_HD,0402_CC; PCB DECAL: R0603; Source_Path: Q:\ORCADCIS\SYMBOLS\FCL_RESISTOR.OLB; CLASS: DISCRETE; HEIGHT: 0.4MM; Tolerance: 5%; ROHS: Yes
footprint R0603
pins: 1, 2

## RES_2_1
designator R?, comment value 22R  (hidden comment: RES_2)
PCB DECAL: R0603; Source_Path: E:\野火-CADENCE 封装库\野火_SCH封装库.OLB; CLASS: DISCRETE
footprint R0603
pins: 1, 2

## RES_2_2
designator R?, comment value 0R  (hidden comment: RES_2)
PCB DECAL: R0603; Source_Path: E:\野火-CADENCE 封装库\野火_SCH封装库.OLB; CLASS: DISCRETE
footprint R0603
pins: 1, 2

## RES_2_3
designator R?, comment value 10K  (hidden comment: RES_2)
PCB DECAL: R0603; Source_Path: E:\野火-CADENCE 封装库\野火_SCH封装库.OLB; CLASS: DISCRETE
footprint R0603
pins: 1, 2

## RES_2_4
designator R?, comment value 1K  (hidden comment: RES_2)
PCB DECAL: R0603; Source_Path: E:\野火-CADENCE 封装库\野火_SCH封装库.OLB; CLASS: DISCRETE
footprint R0603
pins: 1, 2

## RES_2_5
designator R?, comment value 15K  (hidden comment: RES_2)
PCB DECAL: R0603; Source_Path: E:\野火-CADENCE 封装库\野火_SCH封装库.OLB; CLASS: DISCRETE
footprint R0603
pins: 1, 2

## RES_3
designator R?, comment value 100R  (hidden comment: RES)
RES MF 1.0M 1/10W 5% 0402; AGILE_PN: 470-79978; MFG_NAME01: PANASONIC; MFG_PN01: ERJ-2GEJ105X; CAD_APPROVED: Yes; FPLIST: RC0402_25,RC0402_HD,0402_CC; PCB DECAL: R0603; Source_Path: Q:\ORCADCIS\SYMBOLS\FCL_RESISTOR.OLB; CLASS: DISCRETE; HEIGHT: 0.4MM; Tolerance: 5%; ROHS: Yes
footprint R0603
pins: 1, 2

## RES_4
designator R?  value 10K  PCB DECAL: R0603  (hidden comment: RES_4)
RES MF 4.7K 1/16W 5% 0402; CLASS: DISCRETE; FPLIST: RC0402_25,RC0402_HD,0402_CC; CAD_APPROVED: Yes; MFG_PN01: RK73B1ETTP472J; MFG_NAME01: KOA SPEER; AGILE_PN: 470-75626; Source_Path: F:\NXP\RT1020\SCH\IMXRT1021_0928.DSN; HEIGHT: 0.41mm; ROHS: Yes; Tolerance: 5%
footprint R0603
pins: 1, 2

## RES_4_1
designator R?, comment value 100K  Tolerance: 1%  PCB DECAL: R0603  (hidden comment: RES_4)
RES MF 4.7K 1/16W 5% 0402; AGILE_PN: 470-75626; MFG_NAME01: KOA SPEER; MFG_PN01: RK73B1ETTP472J; CAD_APPROVED: Yes; FPLIST: RC0402_25,RC0402_HD,0402_CC; CLASS: DISCRETE; Source_Path: F:\NXP\RT1020\SCH\IMXRT1021_0928.DSN; ROHS: Yes; HEIGHT: 0.41mm
footprint R0603
pins: 1, 2

## RES_4_2
designator R?, comment value 49.9R  Tolerance: 1%  PCB DECAL: R0603  (hidden comment: RES_4)
RES MF 4.7K 1/16W 5% 0402; AGILE_PN: 470-75626; MFG_NAME01: KOA SPEER; MFG_PN01: RK73B1ETTP472J; CAD_APPROVED: Yes; FPLIST: RC0402_25,RC0402_HD,0402_CC; CLASS: DISCRETE; Source_Path: F:\NXP\RT1020\SCH\IMXRT1021_0928.DSN; ROHS: Yes; HEIGHT: 0.41mm
footprint R0603
pins: 1, 2

## RES_4_3
designator R?, comment value 22R  (hidden comment: RES_4)
RES MF 4.7K 1/16W 5% 0402; PCB DECAL: R0603; CLASS: DISCRETE; FPLIST: RC0402_25,RC0402_HD,0402_CC; CAD_APPROVED: Yes; MFG_PN01: RK73B1ETTP472J; MFG_NAME01: KOA SPEER; AGILE_PN: 470-75626; Source_Path: F:\NXP\RT1020\SCH\IMXRT1021_0928.DSN; HEIGHT: 0.41mm; ROHS: Yes; Tolerance: 5%
footprint R0603
pins: 1, 2

## RES_4_4
designator R?, comment value 4.7K  (hidden comment: RES_4)
RES MF 4.7K 1/16W 5% 0402; PCB DECAL: R0603; CLASS: DISCRETE; FPLIST: RC0402_25,RC0402_HD,0402_CC; CAD_APPROVED: Yes; MFG_PN01: RK73B1ETTP472J; MFG_NAME01: KOA SPEER; AGILE_PN: 470-75626; Source_Path: F:\NXP\RT1020\SCH\IMXRT1021_0928.DSN; HEIGHT: 0.41mm; ROHS: Yes; Tolerance: 5%
footprint R0603
pins: 1, 2

## RES_4_5
designator R?, comment value 2.49K  (hidden comment: RES_4)
RES MF 4.7K 1/16W 5% 0402; AGILE_PN: 470-75626; MFG_NAME01: KOA SPEER; MFG_PN01: RK73B1ETTP472J; CAD_APPROVED: Yes; FPLIST: RC0402_25,RC0402_HD,0402_CC; CLASS: DISCRETE; PCB DECAL: R0603; Source_Path: F:\NXP\RT1020\SCH\IMXRT1021_0928.DSN; Tolerance: 5%; ROHS: Yes; HEIGHT: 0.41mm
footprint R0603
pins: 1, 2

## RES_4_6
designator R?, comment value 1.5K/NC  (hidden comment: RES_4)
RES MF 4.7K 1/16W 5% 0402; AGILE_PN: 470-75626; MFG_NAME01: KOA SPEER; MFG_PN01: RK73B1ETTP472J; CAD_APPROVED: Yes; FPLIST: RC0402_25,RC0402_HD,0402_CC; CLASS: DISCRETE; PCB DECAL: R0603; Source_Path: F:\NXP\RT1020\SCH\IMXRT1021_0928.DSN; Tolerance: 5%; ROHS: Yes; HEIGHT: 0.41mm
footprint R0603
pins: 1, 2

## RES_4_7
designator R?, comment value 0R  (hidden comment: RES_4)
RES MF 4.7K 1/16W 5% 0402; AGILE_PN: 470-75626; MFG_NAME01: KOA SPEER; MFG_PN01: RK73B1ETTP472J; CAD_APPROVED: Yes; FPLIST: RC0402_25,RC0402_HD,0402_CC; CLASS: DISCRETE; PCB DECAL: R0603; Source_Path: F:\NXP\RT1020\SCH\IMXRT1021_0928.DSN; Tolerance: 5%; ROHS: Yes; HEIGHT: 0.41mm
footprint R0603
pins: 1, 2

## RES_4_8
designator R?, comment value 510R  (hidden comment: RES_4)
RES MF 4.7K 1/16W 5% 0402; PCB DECAL: R0603; AGILE_PN: 470-75626; MFG_NAME01: KOA SPEER; MFG_PN01: RK73B1ETTP472J; CAD_APPROVED: Yes; FPLIST: RC0402_25,RC0402_HD,0402_CC; CLASS: DISCRETE; Source_Path: F:\NXP\RT1020\SCH\IMXRT1021_0928.DSN; Tolerance: 5%; ROHS: Yes; HEIGHT: 0.41mm
footprint R0603
pins: 1, 2

## RES_4_9
designator R?, comment value 1.5K  (hidden comment: RES_4)
RES MF 4.7K 1/16W 5% 0402; PCB DECAL: R0603; CLASS: DISCRETE; FPLIST: RC0402_25,RC0402_HD,0402_CC; CAD_APPROVED: Yes; MFG_PN01: RK73B1ETTP472J; MFG_NAME01: KOA SPEER; AGILE_PN: 470-75626; Source_Path: F:\NXP\RT1020\SCH\IMXRT1021_0928.DSN; HEIGHT: 0.41mm; ROHS: Yes; Tolerance: 5%
footprint R0603
pins: 1, 2

## RES_4_10
designator R?, comment value 0R/NC  (hidden comment: RES_4)
RES MF 4.7K 1/16W 5% 0402; CLASS: DISCRETE; FPLIST: RC0402_25,RC0402_HD,0402_CC; CAD_APPROVED: Yes; MFG_PN01: RK73B1ETTP472J; MFG_NAME01: KOA SPEER; AGILE_PN: 470-75626; PCB DECAL: R0603; Source_Path: F:\NXP\RT1020\SCH\IMXRT1021_0928.DSN; HEIGHT: 0.41mm; ROHS: Yes; Tolerance: 5%
footprint R0603
pins: 1, 2

## RES_4_11
designator R?, comment value 1K  PCB DECAL: R0603  (hidden comment: RES_4)
RES MF 4.7K 1/16W 5% 0402; CLASS: DISCRETE; FPLIST: RC0402_25,RC0402_HD,0402_CC; CAD_APPROVED: Yes; MFG_PN01: RK73B1ETTP472J; MFG_NAME01: KOA SPEER; AGILE_PN: 470-75626; Source_Path: F:\NXP\RT1020\SCH\IMXRT1021_0928.DSN; HEIGHT: 0.41mm; ROHS: Yes; Tolerance: 5%
footprint R0603
pins: 1, 2

## RES_5
designator R?  value 200K  Tolerance: 1%  PCB DECAL: R0603  (hidden comment: RES_5)
RES MF 180K 1/10W 1% AEC-Q200 0402; AGILE_PN: 470-31088; MFG_NAME01: KOA SPEER; MFG_PN01: RK73H1ETTP1803F; CAD_APPROVED: Yes; FPLIST: RC0402_25,RC0402_HD,0402_CC; Temp_Range: -55C to +155C; Source_Path: F:\NXP\RT1020\SCH\IMXRT1021_0928_1.DSN; CLASS: DISCRETE; ROHS: Yes; HEIGHT: 0.40 MM
footprint R0603
pins: 1, 2

## RES_5_1
designator R?, comment value 3.4K  PCB DECAL: R0603  (hidden comment: RES_5)
RES MF 4.7K 1/16W 5% 0402; FPLIST: RC0402_25,RC0402_HD,0402_CC; CAD_APPROVED: Yes; MFG_PN01: RK73B1ETTP472J; MFG_NAME01: KOA SPEER; AGILE_PN: 470-75626; Source_Path: F:\NXP\RT1020\SCH\IMXRT1021_0928_1.DSN; CLASS: DISCRETE; HEIGHT: 0.41mm; ROHS: Yes; Tolerance: 5%
footprint R0603
pins: 1, 2

## RES_5_2
designator R?, comment value 13.7K  Tolerance: 1%  PCB DECAL: R0603  (hidden comment: RES_5)
RES MF 4.7K 1/16W 5% 0402; AGILE_PN: 470-75626; MFG_NAME01: KOA SPEER; MFG_PN01: RK73B1ETTP472J; CAD_APPROVED: Yes; FPLIST: RC0402_25,RC0402_HD,0402_CC; Source_Path: F:\NXP\RT1020\SCH\IMXRT1021_0928_1.DSN; CLASS: DISCRETE; ROHS: Yes; HEIGHT: 0.41mm
footprint R0603
pins: 1, 2

## RES_5_3
designator R?, comment value 1K  PCB DECAL: R0603  (hidden comment: RES_5)
RES MF ZERO OHM 1/16W 5% 0402; FPLIST: RC0402_25,RC0402_HD,RC0402_X2,0402_CC; CAD_APPROVED: Yes; MFG_PN01: MCR01MZPJ000; MFG_NAME01: ROHM; AGILE_PN: 470-75394; Source_Path: F:\NXP\RT1020\SCH\IMXRT1021_0928_1.DSN; CLASS: DISCRETE; ROHS: Yes; Tolerance: 5%; HEIGHT: 0.45 MM
footprint R0603
pins: 1, 2

## RES_5_4
designator R?, comment value 44.2K  Tolerance: 1%  PCB DECAL: R0603  (hidden comment: RES_5)
RES MF 180K 1/10W 1% AEC-Q200 0402; AGILE_PN: 470-31088; MFG_NAME01: KOA SPEER; MFG_PN01: RK73H1ETTP1803F; CAD_APPROVED: Yes; FPLIST: RC0402_25,RC0402_HD,0402_CC; Temp_Range: -55C to +155C; Source_Path: F:\NXP\RT1020\SCH\IMXRT1021_0928_1.DSN; CLASS: DISCRETE; ROHS: Yes; HEIGHT: 0.40 MM
footprint R0603
pins: 1, 2

## RES_5_5
designator R?, comment value 10K  PCB DECAL: R0603  (hidden comment: RES_5)
RES MF 4.7K 1/16W 5% 0402; AGILE_PN: 470-75626; MFG_NAME01: KOA SPEER; MFG_PN01: RK73B1ETTP472J; CAD_APPROVED: Yes; FPLIST: RC0402_25,RC0402_HD,0402_CC; Source_Path: F:\NXP\RT1020\SCH\IMXRT1021_0928_1.DSN; CLASS: DISCRETE; Tolerance: 5%; ROHS: Yes; HEIGHT: 0.41mm
footprint R0603
pins: 1, 2

## RES_5_6
designator R?, comment value 47K  PCB DECAL: R0603  (hidden comment: RES_5)
RES MF 4.7K 1/16W 5% 0402; AGILE_PN: 470-75626; MFG_NAME01: KOA SPEER; MFG_PN01: RK73B1ETTP472J; CAD_APPROVED: Yes; FPLIST: RC0402_25,RC0402_HD,0402_CC; Source_Path: F:\NXP\RT1020\SCH\IMXRT1021_0928_1.DSN; CLASS: DISCRETE; Tolerance: 5%; ROHS: Yes; HEIGHT: 0.41mm
footprint R0603
pins: 1, 2

## RES_5_7
designator R?, comment value 22R  PCB DECAL: R0603  (hidden comment: RES_5)
RES MF 4.7K 1/16W 5% 0402; AGILE_PN: 470-75626; MFG_NAME01: KOA SPEER; MFG_PN01: RK73B1ETTP472J; CAD_APPROVED: Yes; FPLIST: RC0402_25,RC0402_HD,0402_CC; Source_Path: F:\NXP\RT1020\SCH\IMXRT1021_0928_1.DSN; CLASS: DISCRETE; Tolerance: 5%; ROHS: Yes; HEIGHT: 0.41mm
footprint R0603
pins: 1, 2

## RES_5_8
designator R?, comment value 1K  PCB DECAL: R0603  (hidden comment: RES_5)
RES MF 4.7K 1/16W 5% 0402; FPLIST: RC0402_25,RC0402_HD,0402_CC; CAD_APPROVED: Yes; MFG_PN01: RK73B1ETTP472J; MFG_NAME01: KOA SPEER; AGILE_PN: 470-75626; Source_Path: F:\NXP\RT1020\SCH\IMXRT1021_0928_1.DSN; CLASS: DISCRETE; HEIGHT: 0.41mm; ROHS: Yes; Tolerance: 5%
footprint R0603
pins: 1, 2

## RES_5_9
designator R?, comment value 4.7K  PCB DECAL: R0603  (hidden comment: RES_5)
RES MF 4.7K 1/16W 5% 0402; FPLIST: RC0402_25,RC0402_HD,0402_CC; CAD_APPROVED: Yes; MFG_PN01: RK73B1ETTP472J; MFG_NAME01: KOA SPEER; AGILE_PN: 470-75626; Source_Path: F:\NXP\RT1020\SCH\IMXRT1021_0928_1.DSN; CLASS: DISCRETE; HEIGHT: 0.41mm; ROHS: Yes; Tolerance: 5%
footprint R0603
pins: 1, 2

## RES_5_10
designator R?, comment value 120R  PCB DECAL: R0603  (hidden comment: RES_5)
RES MF 4.7K 1/16W 5% 0402; AGILE_PN: 470-75626; MFG_NAME01: KOA SPEER; MFG_PN01: RK73B1ETTP472J; CAD_APPROVED: Yes; FPLIST: RC0402_25,RC0402_HD,0402_CC; Source_Path: F:\NXP\RT1020\SCH\IMXRT1021_0928_1.DSN; CLASS: DISCRETE; Tolerance: 5%; ROHS: Yes; HEIGHT: 0.41mm
footprint R0603
pins: 1, 2

## RES_5_11
designator R?, comment value 5K1  PCB DECAL: R0603  (hidden comment: RES_5)
RES MF 4.7K 1/16W 5% 0402; AGILE_PN: 470-75626; MFG_NAME01: KOA SPEER; MFG_PN01: RK73B1ETTP472J; CAD_APPROVED: Yes; FPLIST: RC0402_25,RC0402_HD,0402_CC; Source_Path: F:\NXP\RT1020\SCH\IMXRT1021_0928_1.DSN; CLASS: DISCRETE; Tolerance: 5%; ROHS: Yes; HEIGHT: 0.41mm
footprint R0603
pins: 1, 2

## RES_5_12
designator R?, comment value 0R  (hidden comment: RES_5)
RES MF 4.7K 1/16W 5% 0402; FPLIST: RC0402_25,RC0402_HD,0402_CC; CAD_APPROVED: Yes; MFG_PN01: RK73B1ETTP472J; MFG_NAME01: KOA SPEER; AGILE_PN: 470-75626; PCB DECAL: R0603; Source_Path: F:\NXP\RT1020\SCH\IMXRT1021_0928_1.DSN; CLASS: DISCRETE; HEIGHT: 0.41mm; ROHS: Yes; Tolerance: 5%
footprint R0603
pins: 1, 2

## RES_5_13
designator R?, comment value 100R  PCB DECAL: R0603  (hidden comment: RES_5)
RES MF 4.7K 1/16W 5% 0402; AGILE_PN: 470-75626; MFG_NAME01: KOA SPEER; MFG_PN01: RK73B1ETTP472J; CAD_APPROVED: Yes; FPLIST: RC0402_25,RC0402_HD,0402_CC; Source_Path: F:\NXP\RT1020\SCH\IMXRT1021_0928_1.DSN; CLASS: DISCRETE; Tolerance: 5%; ROHS: Yes; HEIGHT: 0.41mm
footprint R0603
pins: 1, 2

## RES_5_14
designator R?, comment value 20R  PCB DECAL: R0603  (hidden comment: RES_5)
RES MF 4.7K 1/16W 5% 0402; AGILE_PN: 470-75626; MFG_NAME01: KOA SPEER; MFG_PN01: RK73B1ETTP472J; CAD_APPROVED: Yes; FPLIST: RC0402_25,RC0402_HD,0402_CC; Source_Path: F:\NXP\RT1020\SCH\IMXRT1021_0928_1.DSN; CLASS: DISCRETE; Tolerance: 5%; ROHS: Yes; HEIGHT: 0.41mm
footprint R0603
pins: 1, 2

## RES_5_15
designator R?, comment value 2.2K  PCB DECAL: R0603  (hidden comment: RES_5)
RES MF 4.7K 1/16W 5% 0402; AGILE_PN: 470-75626; MFG_NAME01: KOA SPEER; MFG_PN01: RK73B1ETTP472J; CAD_APPROVED: Yes; FPLIST: RC0402_25,RC0402_HD,0402_CC; Source_Path: F:\NXP\RT1020\SCH\IMXRT1021_0928_1.DSN; CLASS: DISCRETE; Tolerance: 5%; ROHS: Yes; HEIGHT: 0.41mm
footprint R0603
pins: 1, 2

## RES_5_16
designator R?, comment value 6K8  PCB DECAL: R0603  (hidden comment: RES_5)
RES MF 4.7K 1/16W 5% 0402; FPLIST: RC0402_25,RC0402_HD,0402_CC; CAD_APPROVED: Yes; MFG_PN01: RK73B1ETTP472J; MFG_NAME01: KOA SPEER; AGILE_PN: 470-75626; Source_Path: F:\NXP\RT1020\SCH\IMXRT1021_0928_1.DSN; CLASS: DISCRETE; HEIGHT: 0.41mm; ROHS: Yes; Tolerance: 5%
footprint R0603
pins: 1, 2

## RES_5_17
designator R?, comment value 100K  PCB DECAL: R0603  (hidden comment: RES_5)
RES MF 4.7K 1/16W 5% 0402; FPLIST: RC0402_25,RC0402_HD,0402_CC; CAD_APPROVED: Yes; MFG_PN01: RK73B1ETTP472J; MFG_NAME01: KOA SPEER; AGILE_PN: 470-75626; Source_Path: F:\NXP\RT1020\SCH\IMXRT1021_0928_1.DSN; CLASS: DISCRETE; HEIGHT: 0.41mm; ROHS: Yes; Tolerance: 5%
footprint R0603
pins: 1, 2

## RES_5_18
designator R?, comment value NC  PCB DECAL: R0603  (hidden comment: RES_5)
RES MF 4.7K 1/16W 5% 0402; FPLIST: RC0402_25,RC0402_HD,0402_CC; CAD_APPROVED: Yes; MFG_PN01: RK73B1ETTP472J; MFG_NAME01: KOA SPEER; AGILE_PN: 470-75626; Source_Path: F:\NXP\RT1020\SCH\IMXRT1021_0928_1.DSN; CLASS: DISCRETE; HEIGHT: 0.41mm; ROHS: Yes; Tolerance: 5%
footprint R0603
pins: 1, 2

## RES_5_19
designator R?, comment value 4.3K  PCB DECAL: R0603  (hidden comment: RES_5)
RES MF 4.7K 1/16W 5% 0402; FPLIST: RC0402_25,RC0402_HD,0402_CC; CAD_APPROVED: Yes; MFG_PN01: RK73B1ETTP472J; MFG_NAME01: KOA SPEER; AGILE_PN: 470-75626; Source_Path: F:\NXP\RT1020\SCH\IMXRT1021_0928_1.DSN; CLASS: DISCRETE; HEIGHT: 0.41mm; ROHS: Yes; Tolerance: 5%
footprint R0603
pins: 1, 2

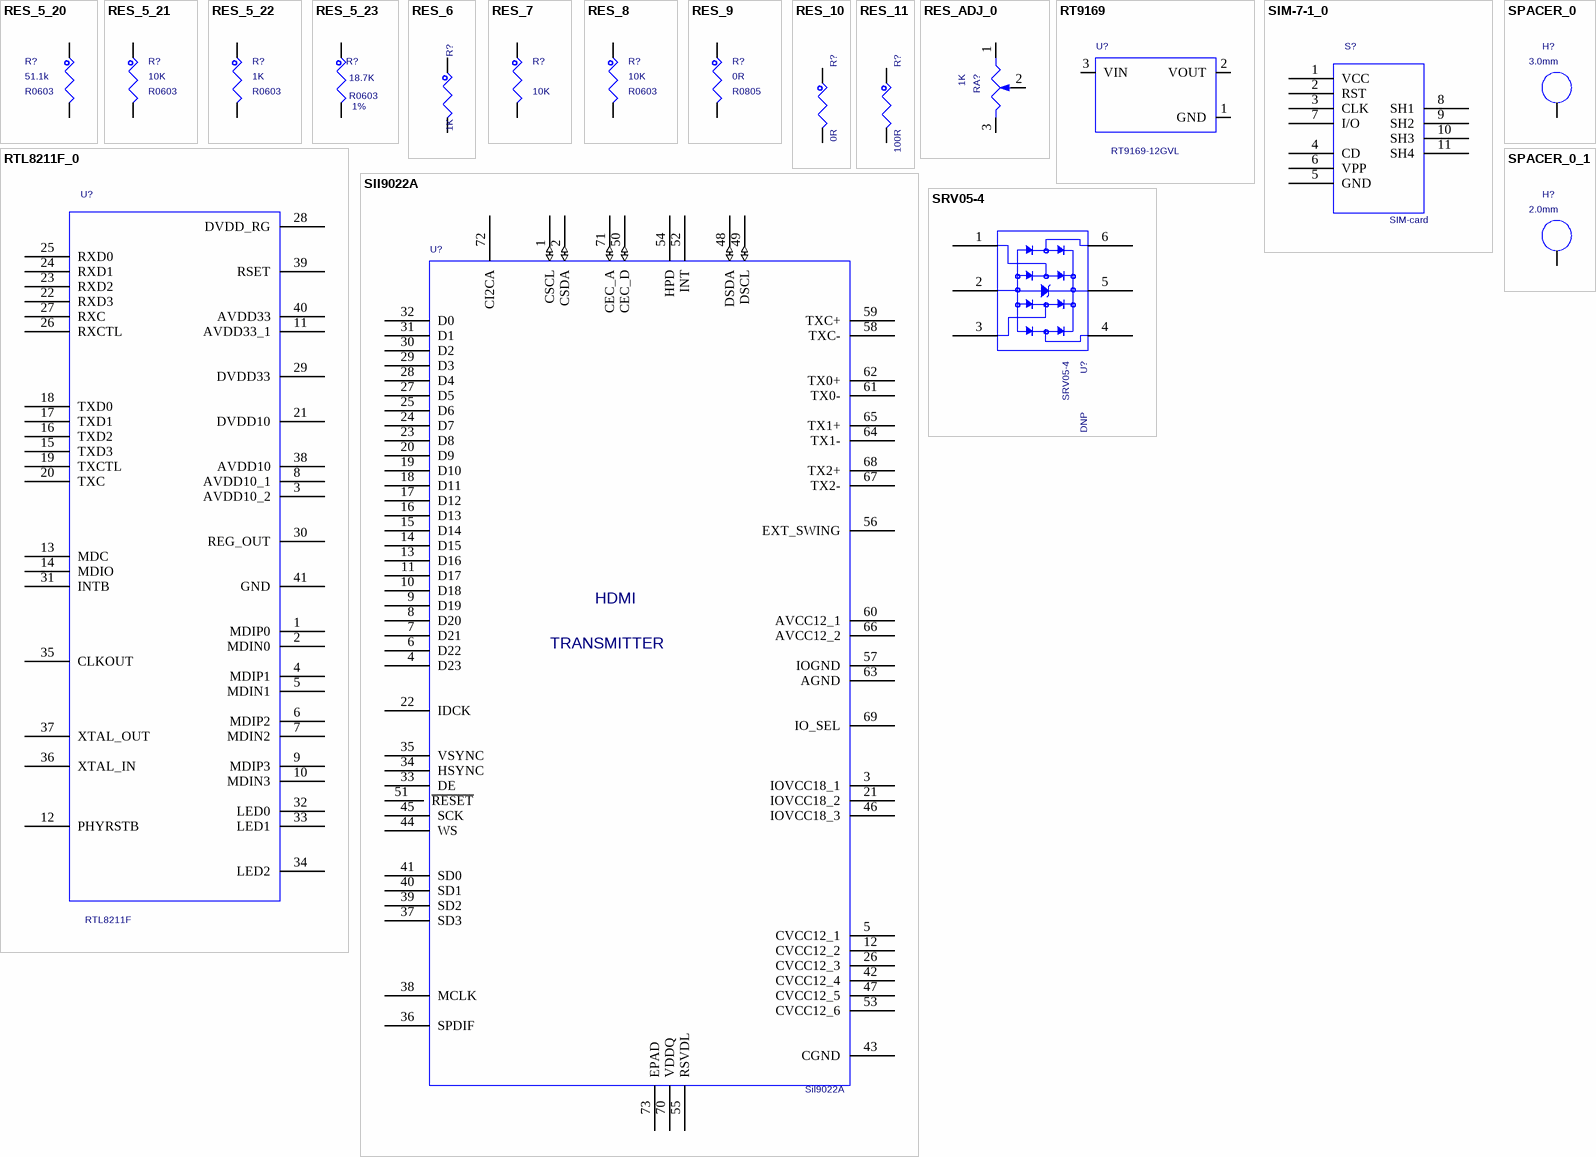
[diagram p3: symbols RES_5_20 to SRV05-4]

## RES_5_20
designator R?, comment value 51.1k  PCB DECAL: R0603  (hidden comment: RES_5)
RES MF 4.7K 1/16W 5% 0402; AGILE_PN: 470-75626; MFG_NAME01: KOA SPEER; MFG_PN01: RK73B1ETTP472J; CAD_APPROVED: Yes; FPLIST: RC0402_25,RC0402_HD,0402_CC; Source_Path: F:\NXP\RT1020\SCH\IMXRT1021_0928_1.DSN; CLASS: DISCRETE; Tolerance: 5%; ROHS: Yes; HEIGHT: 0.41mm
footprint R0603
pins: 1, 2

## RES_5_21
designator R?, comment value 10K  PCB DECAL: R0603  (hidden comment: RES_5)
RES MF 10K 1/16W 5% 0402; AGILE_PN: 470-75557; MFG_NAME01: VISHAY INTERTECHNOLOGY; MFG_PN01: CRCW040210K0JNED; CAD_APPROVED: Yes; FPLIST: RC0402_25,RC0402_HD,0402_CC; Source_Path: F:\NXP\RT1020\SCH\IMXRT1021_0928_1.DSN; CLASS: DISCRETE; HEIGHT: 0.4 MM; TOL: 5%; Tolerance: 5%; ROHS: Yes
footprint R0603
pins: 1, 2

## RES_5_22
designator R?, comment value 1K  PCB DECAL: R0603  (hidden comment: RES_5)
RES MF 10K 1/16W 5% 0402; FPLIST: RC0402_25,RC0402_HD,0402_CC; CAD_APPROVED: Yes; MFG_PN01: CRCW040210K0JNED; MFG_NAME01: VISHAY INTERTECHNOLOGY; AGILE_PN: 470-75557; Source_Path: F:\NXP\RT1020\SCH\IMXRT1021_0928_1.DSN; CLASS: DISCRETE; ROHS: Yes; Tolerance: 5%; TOL: 5%; HEIGHT: 0.4 MM
footprint R0603
pins: 1, 2

## RES_5_23
designator R?, comment value 18.7K  Tolerance: 1%  PCB DECAL: R0603  (hidden comment: RES_5)
RES MF 4.7K 1/16W 5% 0402; AGILE_PN: 470-75626; MFG_NAME01: KOA SPEER; MFG_PN01: RK73B1ETTP472J; CAD_APPROVED: Yes; FPLIST: RC0402_25,RC0402_HD,0402_CC; Source_Path: F:\NXP\RT1020\SCH\IMXRT1021_0928_1.DSN; CLASS: DISCRETE; ROHS: Yes; HEIGHT: 0.41mm
footprint R0603
pins: 1, 2

## RES_6
designator R?, comment value 1K  (hidden comment: RES)
RES MF 1.0M 1/10W 5% 0402; FPLIST: RC0402_25,RC0402_HD,0402_CC; CAD_APPROVED: Yes; MFG_PN01: ERJ-2GEJ105X; MFG_NAME01: PANASONIC; AGILE_PN: 470-79978; PCB DECAL: R0603; Source_Path: Q:\ORCADCIS\SYMBOLS\FCL_RESISTOR.OLB; CLASS: DISCRETE; ROHS: Yes; Tolerance: 5%; HEIGHT: 0.4MM
footprint R0603
pins: 1, 2

## RES_7
designator R?, comment value 10K  (hidden comment: RES)
RES MF 10.0K 1/16W 1% AEC-Q200 0402; CLASS: DISCRETE; FPLIST: RC0402_25,RC0402_HD,0402_CC; CAD_APPROVED: Yes; MFG_PN01: RK73H1ETTP1002F; MFG_NAME01: KOA SPEER; AGILE_PN: 470-75416; SIGNAL_MODEL: DEFAULT_RESISTOR_10000OHM_2_1; PCB DECAL: R0603; Source_Path: Q:\ORCADCIS\SYMBOLS\FCL_RESISTOR.OLB; ROHS: Yes; Tolerance: 1%
footprint R0603
pins: 1, 2

## RES_8
designator R?, comment value 10K  PCB DECAL: R0603  (hidden comment: RES)
RES MF 10K 1/16W 5% 0402; AGILE_PN: 470-75557; MFG_NAME01: VISHAY INTERTECHNOLOGY; MFG_PN01: CRCW040210K0JNED; CAD_APPROVED: Yes; FPLIST: RC0402_25,RC0402_HD,0402_CC; Source_Path: Q:\ORCADCIS\SYMBOLS\FCL_RESISTOR.OLB; CLASS: DISCRETE; Tolerance: 5%; ROHS: Yes; HEIGHT: 0.4 MM
footprint R0603
pins: 1, 2

## RES_9
designator R?, comment value 0R  PCB DECAL: R0805  (hidden comment: RES)
RES MF ZERO OHM 1/8W -- 0805; FPLIST: RC0805_OV,RC0805,RC0805_OV_3P,0805_CC; CAD_APPROVED: Yes; MFG_PN01: RC0805JR-070RL; MFG_NAME01: YAGEO AMERICA; Tolerance: 5%; AGILE_PN: 470-75442; Source_Path: Q:\ORCADCIS\SYMBOLS\FCL_RESISTOR.OLB; CLASS: DISCRETE; HEIGHT: 0.7 MM; ROHS: Yes
footprint R0805
pins: 1, 2

## RES_10
designator R?, comment value 0R  (hidden comment: RES)
RES MF 100 OHM 1/16W 1% 0402; AGILE_PN: 470-30454; MFG_NAME01: THYE MING TECH CO LTD; MFG_PN01: CR-02FL6--100R; CAD_APPROVED: Yes; FPLIST: RC0402_25,RC0402_HD,0402_CC; PCB DECAL: R0603; Source_Path: Q:\ORCADCIS\SYMBOLS\FCL_RESISTOR.OLB; CLASS: DISCRETE; HEIGHT: 0.4 MM; Tolerance: 1%; ROHS: Yes
footprint R0603
pins: 1, 2

## RES_11
designator R?, comment value 100R  (hidden comment: RES)
RES MF 100 OHM 1/16W 1% 0402; AGILE_PN: 470-30454; MFG_NAME01: THYE MING TECH CO LTD; MFG_PN01: CR-02FL6--100R; CAD_APPROVED: Yes; FPLIST: RC0402_25,RC0402_HD,0402_CC; PCB DECAL: R0603; Source_Path: Q:\ORCADCIS\SYMBOLS\FCL_RESISTOR.OLB; CLASS: DISCRETE; HEIGHT: 0.4 MM; Tolerance: 1%; ROHS: Yes
footprint R0603
pins: 1, 2

## RES_ADJ_0
designator RA?  value 1K  (hidden comment: RES_ADJ_0)
Single Turn Top Adjust, 3362P; Partname: DIP可调电阻 3362; Mfr: Bourns; Mfr_Part_Number: 3362P-1-203LF; Part_Number: RE700010-01; Spec: 20K,3362P-1-203LF(Bourns); Remarks: Checked; Gtech_Number: 50700011202KR0201; Power: 1/2W; PCB DECAL: RM065-V1; Source_Path: D:\NXP_RT1050\PCB\IMXRT1052-180207\SCH\RT1050_MB_PRO\IMXRT1052_MB_PRO_0502.DSN
footprint RM065-V1
pins: 1, 2, 3

## RT9169
designator U?  value RT9169-12GVL  (hidden comment: RT9169)
PCB DECAL: SOT23; Source_Path: F:\NXP\I.MX6UL\SCH\IMX6UL.OLB; CLASS: IC
footprint SOT23
pins: 1 GND (power), 2 VOUT, 3 VIN

## RTL8211F_0
designator U?  value RTL8211F  (hidden comment: RTL8211F_0)
PCB DECAL: QFP_40P; Source_Path: E:\Z\野火_MP157_核心板_底板_硬件资料\EBF157_B1_PRO_002\EBF157_B1_PRO_001.DSN
footprint QFP_40P
pins: 1 MDIP0, 2 MDIN0, 3 AVDD10_2, 4 MDIP1, 5 MDIN1, 6 MDIP2, 7 MDIN2, 8 AVDD10_1, 9 MDIP3, 10 MDIN3, 11 AVDD33_1, 12 PHYRSTB, 13 MDC, 14 MDIO, 15 TXD3, 16 TXD2, 17 TXD1, 18 TXD0, 19 TXCTL, 20 TXC, 21 DVDD10, 22 RXD3, 23 RXD2, 24 RXD1, 25 RXD0, 26 RXCTL, 27 RXC, 28 DVDD_RG, 29 DVDD33, 30 REG_OUT, 31 INTB, 32 LED0, 33 LED1, 34 LED2, 35 CLKOUT, 36 XTAL_IN, 37 XTAL_OUT, 38 AVDD10, 39 RSET, 40 AVDD33, 41 GND

## SII9022A
designator U?
IC XMTR HDMI 165MHZ 1.8/3.3V QFN72; PCB DECAL: QFN72_0P5_10X10_4P85SQ; AGILE_PN: 312-79886; MFG_NAME01: SILICON IMAGE; MFG_PN01: SiI9022ACNU; ASSY_OPT: DNP; CAD_APPROVED: Yes; Source_Path: Q:\ORCADCIS\SYMBOLS\FCL_IC4.OLB; ROHS: Yes; HEIGHT: 0.9MM; VALUE: SiI9022A; CLASS: IC
footprint QFN72_0P5_10X10_4P85SQ
pins: 1 CSCL (io), 2 CSDA (io), 3 IOVCC18_1 (power), 4 D23, 5 CVCC12_1 (power), 6 D22, 7 D21, 8 D20, 9 D19, 10 D18, 11 D17, 12 CVCC12_2 (power), 13 D16, 14 D15, 15 D14, 16 D13, 17 D12, 18 D11, 19 D10, 20 D9, 21 IOVCC18_2 (power), 22 IDCK, 23 D8, 24 D7, 25 D6, 26 CVCC12_3 (power), 27 D5, 28 D4, 29 D3, 30 D2, 31 D1, 32 D0, 33 DE, 34 HSYNC, 35 VSYNC, 36 SPDIF, 37 SD3, 38 MCLK, 39 SD2, 40 SD1, 41 SD0, 42 CVCC12_4 (power), 43 CGND (power), 44 WS, 45 SCK, 46 IOVCC18_3 (power), 47 CVCC12_5 (power), 48 DSDA (io), 49 DSCL (io), 50 CEC_D (io), 51 ~{RESET}, 52 INT, 53 CVCC12_6 (power), 54 HPD, 55 RSVDL, 56 EXT_SWING, 57 IOGND (power), 58 TXC-, 59 TXC+, 60 AVCC12_1 (power), 61 TX0-, 62 TX0+, 63 AGND (power), 64 TX1-, 65 TX1+, 66 AVCC12_2 (power), 67 TX2-, 68 TX2+, 69 IO_SEL, 70 VDDQ (power), 71 CEC_A (io), 72 CI2CA, 73 EPAD (power)
text: HDMI; TRANSMITTER

## SIM-7-1_0
designator S?  value SIM-card  (hidden comment: SIM-7-1_0)
PCB DECAL: NANO_SIM; Source_Path: E:\20200512_SH_HONGDING_CUSTOMIZED\SCH\EBF_6ULL SH HONGDING_20200512.DSN
footprint NANO_SIM
pins: 1 VCC, 2 RST, 3 CLK, 4 CD, 5 GND, 6 VPP, 7 I/O, 8 SH1, 9 SH2, 10 SH3, 11 SH4

## SPACER_0
designator H?  value 3.0mm  (hidden comment: SPACER_0)
FASTENER, STANDOFF 4.5MMX3.53XM3.0X0.5 ROUND THR .635"L BRASS; PCB DECAL: T4R2-6R2_BOTSMT; CAD_APPROVED: Yes; ASSY_OPT: DNP; MFG_PN01: MSS251-R-1-A-16; MFG_NAME01: UNICORP; AGILE_PN: 280-76498; Source_Path: H:\NXP_RT1050\SCH\IMXRT1052.DSN; CLASS: IC; HEIGHT: 16.13MM; ROHS: Yes
footprint T4R2-6R2_BOTSMT
pins: 1 NC_1

## SPACER_0_1
designator H?, comment value 2.0mm  (hidden comment: SPACER_0)
FASTENER, STANDOFF 4.5MMX3.53XM3.0X0.5 ROUND THR .635"L BRASS; PCB DECAL: T4R2-6R2_BOTSMT; AGILE_PN: 280-76498; MFG_NAME01: UNICORP; MFG_PN01: MSS251-R-1-A-16; ASSY_OPT: DNP; CAD_APPROVED: Yes; Source_Path: H:\NXP_RT1050\SCH\IMXRT1052.DSN; CLASS: IC; ROHS: Yes; HEIGHT: 16.13MM
footprint T4R2-6R2_BOTSMT
pins: 1 NC_1

## SRV05-4
designator U?  ASSY_OPT: DNP  (hidden comment: SRV05-4)
DIODE TVS ARRAY 12A 5V 300W SOT23_S6; AGILE_PN: 480-75205; MFG_NAME01: SEMTECH CORP; MFG_PN01: SRV05-4.TCT; CAD_APPROVED: Yes; Source_Path: Q:\ORCADCIS\SYMBOLS\FCL_SEMICONDUCTOR.OLB; CLASS: IC; ROHS: Yes; HEIGHT: 1.45mm; PCB DECAL: SOT23_S6; Value: SRV05-4
footprint SOT23_S6
pins: 1 I/O1, 2 GND, 3 I/O3, 4 I/O4, 5 VCC, 6 I/O6

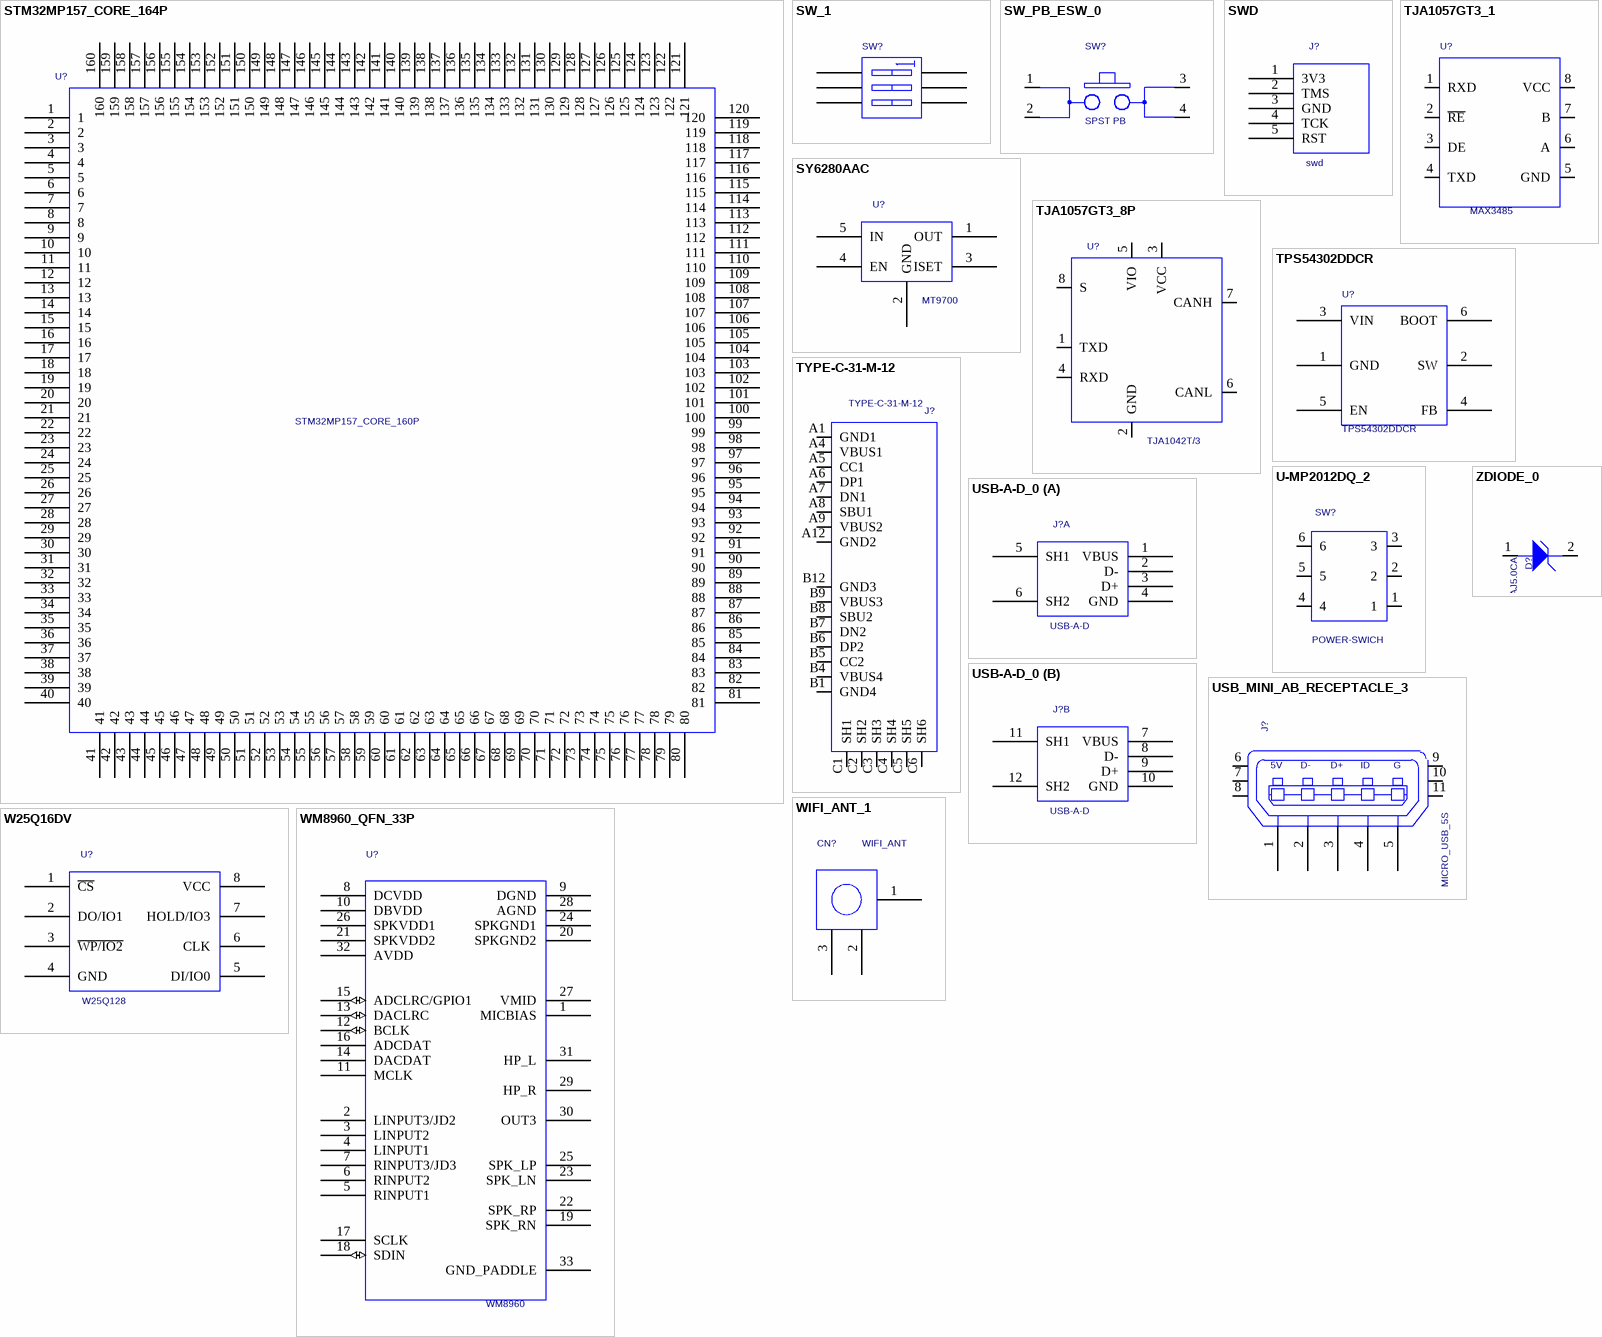
[diagram p4: symbols STM32MP157_CORE_164P to ZDIODE_0]